# Altium integrated library Altera FPGA.IntLib: 467 symbols (part 2 of 3)
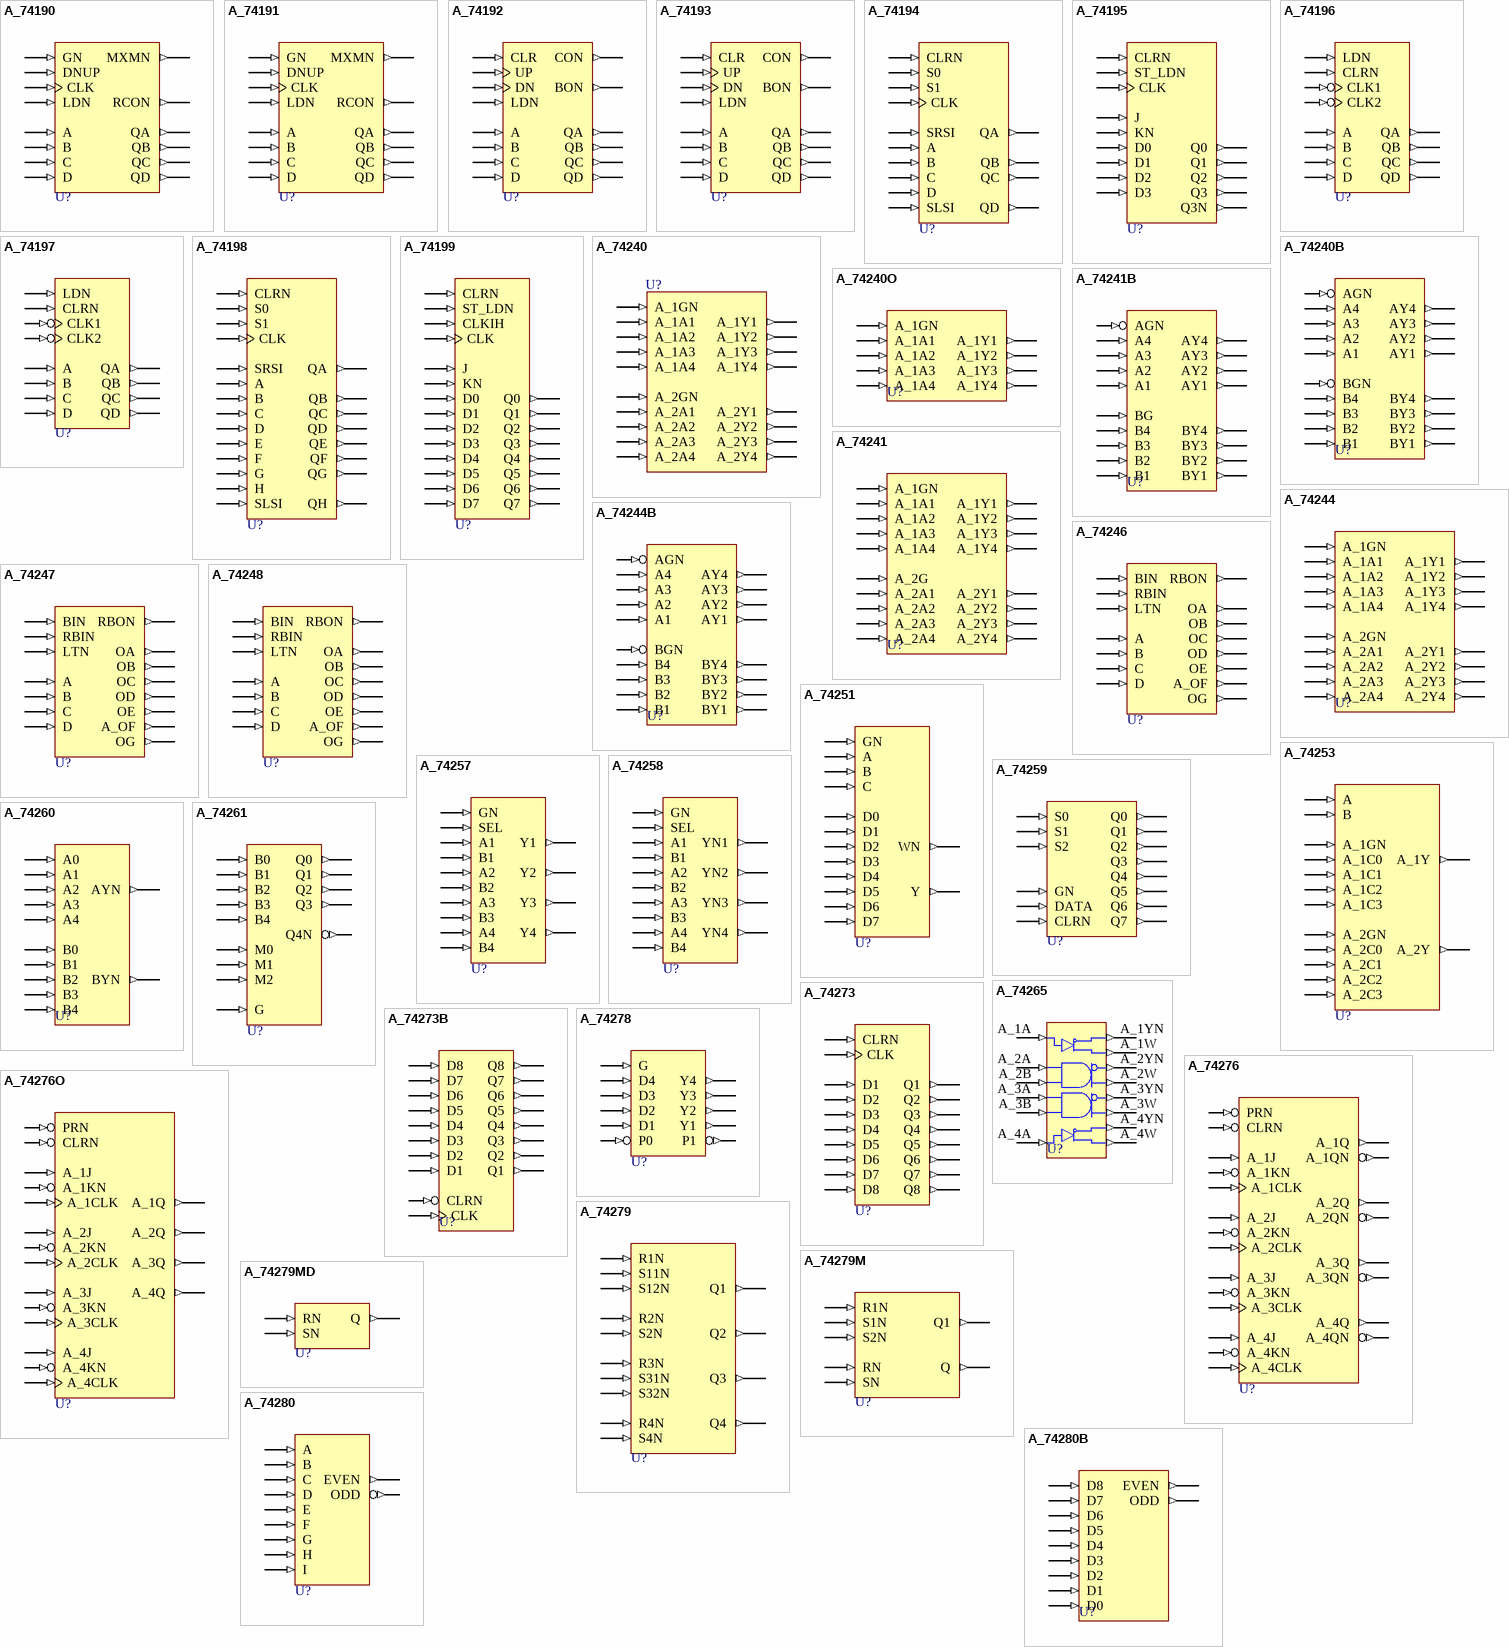
[diagram p13: symbols A_74190 to A_74280B]

## A_74273
designator U?
Octal D-Type Flip-Flop with Asynchronous Clear; FPGAVendor: Altera; Published: 17-Apr-2002; Publisher: Altium Limited
pins: CLK (in), CLRN (in), D1 (in), D2 (in), D3 (in), D4 (in), D5 (in), D6 (in), D7 (in), D8 (in), Q1 (out), Q2 (out), Q3 (out), Q4 (out), Q5 (out), Q6 (out), Q7 (out), Q8 (out)

## A_74273B
designator U?
Octal D-Type Flipflop with Asynchronous Clear; FPGAVendor: Altera; Published: 17-Apr-2002; Publisher: Altium Limited
pins: CLK (in), CLRN (in), D1 (in), D2 (in), D3 (in), D4 (in), D5 (in), D6 (in), D7 (in), D8 (in), Q1 (out), Q2 (out), Q3 (out), Q4 (out), Q5 (out), Q6 (out), Q7 (out), Q8 (out)

## A_74276
designator U?
Quad J-K-Type Flip-Flop Register with Common Preset and Clear; FPGAVendor: Altera; Published: 17-Apr-2002; Publisher: Altium Limited
pins: A_1CLK (in), A_1J (in), A_1KN (in), A_1Q (out), A_1QN (out), A_2CLK (in), A_2J (in), A_2KN (in), A_2Q (out), A_2QN (out), A_3CLK (in), A_3J (in), A_3KN (in), A_3Q (out), A_3QN (out), A_4CLK (in), A_4J (in), A_4KN (in), A_4Q (out), A_4QN (out), CLRN (in), PRN (in)

## A_74276O
designator U?
Quad J-K-Type Flip-Flop Register with Common Preset and Clear; FPGAVendor: Altera; Published: 17-Apr-2002; Publisher: Altium Limited
pins: A_1CLK (in), A_1J (in), A_1KN (in), A_1Q (out), A_2CLK (in), A_2J (in), A_2KN (in), A_2Q (out), A_3CLK (in), A_3J (in), A_3KN (in), A_3Q (out), A_4CLK (in), A_4J (in), A_4KN (in), A_4Q (out), CLRN (in), PRN (in)

## A_74278
designator U?
4-Bit Cascadable Priority Register; FPGAVendor: Altera; Published: 17-Apr-2002; Publisher: Altium Limited
pins: D1 (in), D2 (in), D3 (in), D4 (in), G (in), P0 (in), P1 (out), Y1 (out), Y2 (out), Y3 (out), Y4 (out)

## A_74279
designator U?
Quad S-R Latch (Set-Reset); FPGAVendor: Altera; Published: 17-Apr-2002; Publisher: Altium Limited
pins: Q1 (out), Q2 (out), Q3 (out), Q4 (out), R1N (in), R2N (in), R3N (in), R4N (in), S2N (in), S4N (in), S11N (in), S12N (in), S31N (in), S32N (in)

## A_74279M
designator U?
Dual S-R Latch (Set-Reset); FPGAVendor: Altera; Published: 17-Apr-2002; Publisher: Altium Limited
pins: Q (out), Q1 (out), R1N (in), RN (in), S1N (in), S2N (in), SN (in)

## A_74279MD
designator U?
S-R Latch (Set-Reset); FPGAVendor: Altera; Published: 17-Apr-2002; Publisher: Altium Limited
pins: Q (out), RN (in), SN (in)

## A_74280
designator U?
9-Bit Odd/Even Parity Generator/Checker; FPGAVendor: Altera; Published: 17-Apr-2002; Publisher: Altium Limited
pins: A (in), B (in), C (in), D (in), E (in), EVEN (out), F (in), G (in), H (in), I (in), ODD (out)

## A_74280B
designator U?
9-Bit Odd/Even Parity Generator/Checker; FPGAVendor: Altera; Published: 17-Apr-2002; Publisher: Altium Limited
pins: D0 (in), D1 (in), D2 (in), D3 (in), D4 (in), D5 (in), D6 (in), D7 (in), D8 (in), EVEN (out), ODD (out)

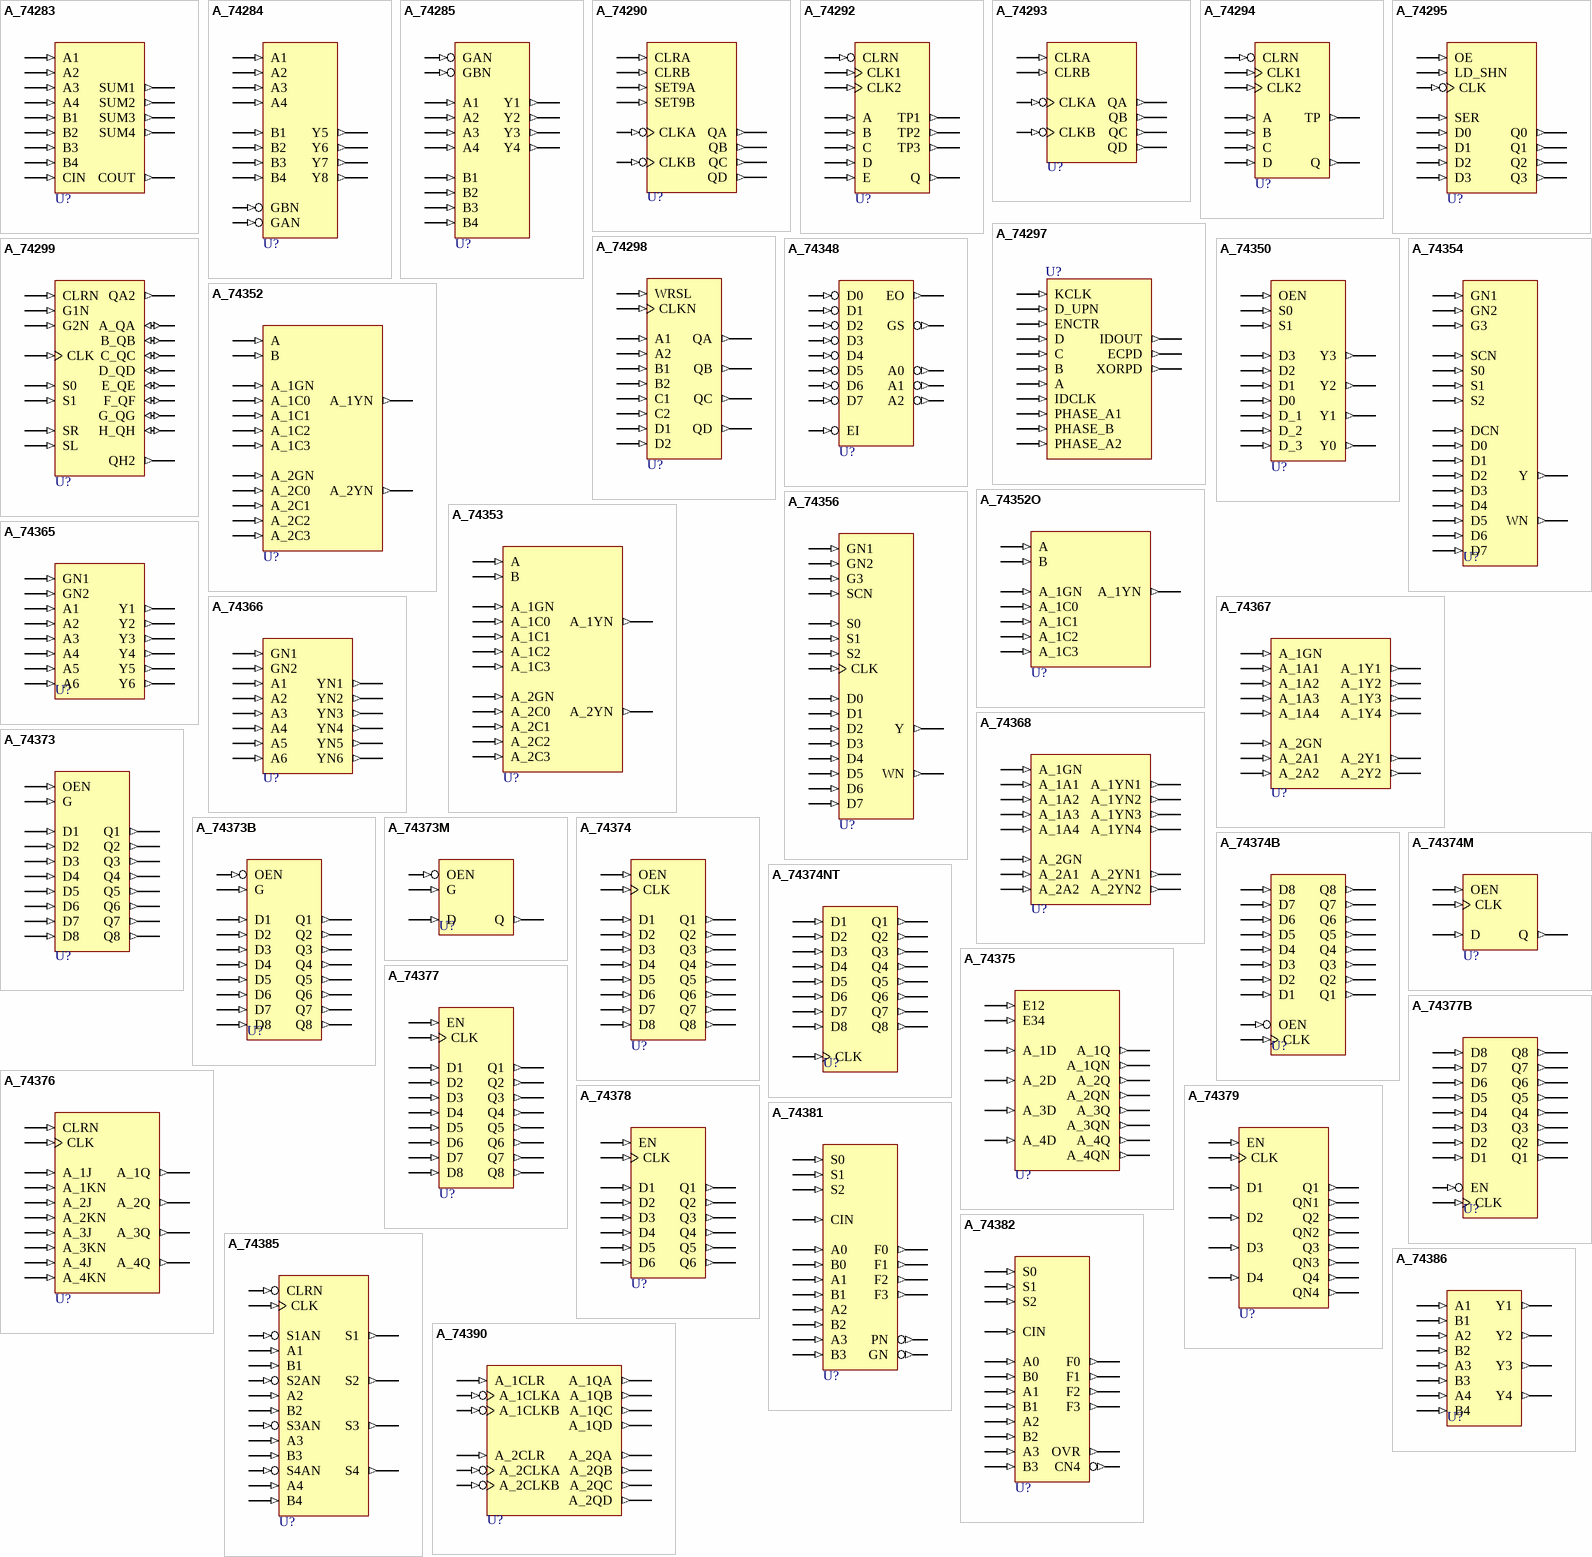
[diagram p5: symbols A_74283 to A_74390]

## A_74283
designator U?
4-Bit Full Adder with Fast Carry; FPGAVendor: Altera; Published: 17-Apr-2002; Publisher: Altium Limited
pins: A1 (in), A2 (in), A3 (in), A4 (in), B1 (in), B2 (in), B3 (in), B4 (in), CIN (in), COUT (out), SUM1 (out), SUM2 (out), SUM3 (out), SUM4 (out)

## A_74284
designator U?
4-Bit-by-4-Bit Parallel Binary Multiplier (Upper 4 Bits of Result); FPGAVendor: Altera; Published: 17-Apr-2002; Publisher: Altium Limited
pins: A1 (in), A2 (in), A3 (in), A4 (in), B1 (in), B2 (in), B3 (in), B4 (in), GAN (in), GBN (in), Y5 (out), Y6 (out), Y7 (out), Y8 (out)

## A_74285
designator U?
4-Bit-by-4-Bit Parallel Binary Multiplier (Lower 4 Bits of Result); FPGAVendor: Altera; Published: 17-Apr-2002; Publisher: Altium Limited
pins: A1 (in), A2 (in), A3 (in), A4 (in), B1 (in), B2 (in), B3 (in), B4 (in), GAN (in), GBN (in), Y1 (out), Y2 (out), Y3 (out), Y4 (out)

## A_74290
designator U?
Decade Counter with Clear; FPGAVendor: Altera; Published: 17-Apr-2002; Publisher: Altium Limited
pins: CLKA (in), CLKB (in), CLRA (in), CLRB (in), QA (out), QB (out), QC (out), QD (out), SET9A (in), SET9B (in)

## A_74292
designator U?
Programmable Frequency Divider/Digital Timer; FPGAVendor: Altera; Published: 17-Apr-2002; Publisher: Altium Limited
pins: A (in), B (in), C (in), CLK1 (in), CLK2 (in), CLRN (in), D (in), E (in), Q (out), TP1 (out), TP2 (out), TP3 (out)

## A_74293
designator U?
Binary Counter with Clear; FPGAVendor: Altera; Published: 17-Apr-2002; Publisher: Altium Limited
pins: CLKA (in), CLKB (in), CLRA (in), CLRB (in), QA (out), QB (out), QC (out), QD (out)

## A_74294
designator U?
Programmable Frequency Divider/Digital Timer; FPGAVendor: Altera; Published: 17-Apr-2002; Publisher: Altium Limited
pins: A (in), B (in), C (in), CLK1 (in), CLK2 (in), CLRN (in), D (in), Q (out), TP (out)

## A_74295
designator U?
4-Bit Right-Shift Left-Shift Register with Tri-State Outputs; FPGAVendor: Altera; Published: 17-Apr-2002; Publisher: Altium Limited
pins: CLK (in), D0 (in), D1 (in), D2 (in), D3 (in), LD_SHN (in), OE (in), Q0 (out), Q1 (out), Q2 (out), Q3 (out), SER (in)

## A_74297
designator U?
Digital Phase-Locked Loop Filter; FPGAVendor: Altera; Published: 17-Apr-2002; Publisher: Altium Limited
pins: A (in), B (in), C (in), D (in), D_UPN (in), ECPD (out), ENCTR (in), IDCLK (in), IDOUT (out), KCLK (in), PHASE_A1 (in), PHASE_A2 (in), PHASE_B (in), XORPD (out)

## A_74298
designator U?
Quad 2-Input Multiplexer with Storage; FPGAVendor: Altera; Published: 17-Apr-2002; Publisher: Altium Limited
pins: A1 (in), A2 (in), B1 (in), B2 (in), C1 (in), C2 (in), CLKN (in), D1 (in), D2 (in), QA (out), QB (out), QC (out), QD (out), WRSL (in)

## A_74299
designator U?
8-Bit Universal Shift/Storage Register; FPGAVendor: Altera; Published: 17-Apr-2002; Publisher: Altium Limited
pins: A_QA (io), B_QB (io), C_QC (io), CLK (in), CLRN (in), D_QD (io), E_QE (io), F_QF (io), G1N (in), G2N (in), G_QG (io), H_QH (io), QA2 (out), QH2 (out), S0 (in), S1 (in), SL (in), SR (in)

## A_74348
designator U?
8-Line to 3-Line Priority Encoder with Tri-State Outputs; FPGAVendor: Altera; Published: 17-Apr-2002; Publisher: Altium Limited
pins: A0 (out), A1 (out), A2 (out), D0 (in), D1 (in), D2 (in), D3 (in), D4 (in), D5 (in), D6 (in), D7 (in), EI (in), EO (out), GS (out)

## A_74350
designator U?
4-Bit Shift Register with Tri-State Outputs; FPGAVendor: Altera; Published: 17-Apr-2002; Publisher: Altium Limited
pins: D0 (in), D1 (in), D2 (in), D3 (in), D_1 (in), D_2 (in), D_3 (in), OEN (in), S0 (in), S1 (in), Y0 (out), Y1 (out), Y2 (out), Y3 (out)

## A_74352
designator U?
Dual 4-Line-to-1-Line Data Selector/Multiplexer with Inverting Outputs; FPGAVendor: Altera; Published: 17-Apr-2002; Publisher: Altium Limited
pins: A (in), A_1C0 (in), A_1C1 (in), A_1C2 (in), A_1C3 (in), A_1GN (in), A_1YN (out), A_2C0 (in), A_2C1 (in), A_2C2 (in), A_2C3 (in), A_2GN (in), A_2YN (out), B (in)

## A_74352O
designator U?
4-Line-to-1-Line Data Selector/Multiplexer with Inverting Outputs; FPGAVendor: Altera; Published: 17-Apr-2002; Publisher: Altium Limited
pins: A (in), A_1C0 (in), A_1C1 (in), A_1C2 (in), A_1C3 (in), A_1GN (in), A_1YN (out), B (in)

## A_74353
designator U?
Dual 4-Line-to-1-Line Data Selector/Multiplexer with Tri-State Inverting Outputs; FPGAVendor: Altera; Published: 17-Apr-2002; Publisher: Altium Limited
pins: A (in), A_1C0 (in), A_1C1 (in), A_1C2 (in), A_1C3 (in), A_1GN (in), A_1YN (out), A_2C0 (in), A_2C1 (in), A_2C2 (in), A_2C3 (in), A_2GN (in), A_2YN (out), B (in)

## A_74354
designator U?
8-Line-to-1-Line Data Selector/Multiplexer/Register with Tri-State Outputs; FPGAVendor: Altera; Published: 17-Apr-2002; Publisher: Altium Limited
pins: D0 (in), D1 (in), D2 (in), D3 (in), D4 (in), D5 (in), D6 (in), D7 (in), DCN (in), G3 (in), GN1 (in), GN2 (in), S0 (in), S1 (in), S2 (in), SCN (in), WN (out), Y (out)

## A_74356
designator U?
8-Line-to-1-Line Data Selector/Multiplexer/Register with Tri-State Outputs; FPGAVendor: Altera; Published: 17-Apr-2002; Publisher: Altium Limited
pins: CLK (in), D0 (in), D1 (in), D2 (in), D3 (in), D4 (in), D5 (in), D6 (in), D7 (in), G3 (in), GN1 (in), GN2 (in), S0 (in), S1 (in), S2 (in), SCN (in), WN (out), Y (out)

## A_74365
designator U?
Hex Tri-State Buffer; FPGAVendor: Altera; Published: 17-Apr-2002; Publisher: Altium Limited
pins: A1 (in), A2 (in), A3 (in), A4 (in), A5 (in), A6 (in), GN1 (in), GN2 (in), Y1 (out), Y2 (out), Y3 (out), Y4 (out), Y5 (out), Y6 (out)

## A_74366
designator U?
Hex Inverting Tri-State Buffer; FPGAVendor: Altera; Published: 17-Apr-2002; Publisher: Altium Limited
pins: A1 (in), A2 (in), A3 (in), A4 (in), A5 (in), A6 (in), GN1 (in), GN2 (in), YN1 (out), YN2 (out), YN3 (out), YN4 (out), YN5 (out), YN6 (out)

## A_74367
designator U?
Hex Tri-State Buffer; FPGAVendor: Altera; Published: 17-Apr-2002; Publisher: Altium Limited
pins: A_1A1 (in), A_1A2 (in), A_1A3 (in), A_1A4 (in), A_1GN (in), A_1Y1 (out), A_1Y2 (out), A_1Y3 (out), A_1Y4 (out), A_2A1 (in), A_2A2 (in), A_2GN (in), A_2Y1 (out), A_2Y2 (out)

## A_74368
designator U?
Hex Inverting Tri-State Buffer; FPGAVendor: Altera; Published: 17-Apr-2002; Publisher: Altium Limited
pins: A_1A1 (in), A_1A2 (in), A_1A3 (in), A_1A4 (in), A_1GN (in), A_1YN1 (out), A_1YN2 (out), A_1YN3 (out), A_1YN4 (out), A_2A1 (in), A_2A2 (in), A_2GN (in), A_2YN1 (out), A_2YN2 (out)

## A_74373
designator U?
Octal Transparent D-Type Latch with Tri-State Outputs; FPGAVendor: Altera; Published: 17-Apr-2002; Publisher: Altium Limited
pins: D1 (in), D2 (in), D3 (in), D4 (in), D5 (in), D6 (in), D7 (in), D8 (in), G (in), OEN (in), Q1 (out), Q2 (out), Q3 (out), Q4 (out), Q5 (out), Q6 (out), Q7 (out), Q8 (out)

## A_74373B
designator U?
Octal Transparent D-Type Latch with Tri-State Outputs; FPGAVendor: Altera; Published: 17-Apr-2002; Publisher: Altium Limited
pins: D1 (in), D2 (in), D3 (in), D4 (in), D5 (in), D6 (in), D7 (in), D8 (in), G (in), OEN (in), Q1 (out), Q2 (out), Q3 (out), Q4 (out), Q5 (out), Q6 (out), Q7 (out), Q8 (out)

## A_74373M
designator U?
Transparent D-Type Latch with Tri-State Outputs; FPGAVendor: Altera; Published: 17-Apr-2002; Publisher: Altium Limited
pins: D (in), G (in), OEN (in), Q (out)

## A_74374
designator U?
Octal D-Type Flip-Flop with Output Enable and Tri-State Outputs; FPGAVendor: Altera; Published: 17-Apr-2002; Publisher: Altium Limited
pins: CLK (in), D1 (in), D2 (in), D3 (in), D4 (in), D5 (in), D6 (in), D7 (in), D8 (in), OEN (in), Q1 (out), Q2 (out), Q3 (out), Q4 (out), Q5 (out), Q6 (out), Q7 (out), Q8 (out)

## A_74374B
designator U?
Octal D-Type Flipflop with Tri-State Outputs and Output Enable; FPGAVendor: Altera; Published: 17-Apr-2002; Publisher: Altium Limited
pins: CLK (in), D1 (in), D2 (in), D3 (in), D4 (in), D5 (in), D6 (in), D7 (in), D8 (in), OEN (in), Q1 (out), Q2 (out), Q3 (out), Q4 (out), Q5 (out), Q6 (out), Q7 (out), Q8 (out)

## A_74374M
designator U?
D-Type Flipflop with Tri-State Outputs and Output Enable; FPGAVendor: Altera; Published: 17-Apr-2002; Publisher: Altium Limited
pins: CLK (in), D (in), OEN (in), Q (out)

## A_74374NT
designator U?
Octal D-Type Flipflop; FPGAVendor: Altera; Published: 17-Apr-2002; Publisher: Altium Limited
pins: CLK (in), D1 (in), D2 (in), D3 (in), D4 (in), D5 (in), D6 (in), D7 (in), D8 (in), Q1 (out), Q2 (out), Q3 (out), Q4 (out), Q5 (out), Q6 (out), Q7 (out), Q8 (out)

## A_74375
designator U?
4-Bit Bistable Latch; FPGAVendor: Altera; Published: 17-Apr-2002; Publisher: Altium Limited
pins: A_1D (in), A_1Q (out), A_1QN (out), A_2D (in), A_2Q (out), A_2QN (out), A_3D (in), A_3Q (out), A_3QN (out), A_4D (in), A_4Q (out), A_4QN (out), E12 (in), E34 (in)

## A_74376
designator U?
Quad J-K-Type Flip-Flop with Common Clock and Common Clear; FPGAVendor: Altera; Published: 17-Apr-2002; Publisher: Altium Limited
pins: A_1J (in), A_1KN (in), A_1Q (out), A_2J (in), A_2KN (in), A_2Q (out), A_3J (in), A_3KN (in), A_3Q (out), A_4J (in), A_4KN (in), A_4Q (out), CLK (in), CLRN (in)

## A_74377
designator U?
Octal D-Type Flip-Flop with Enable; FPGAVendor: Altera; Published: 17-Apr-2002; Publisher: Altium Limited
pins: CLK (in), D1 (in), D2 (in), D3 (in), D4 (in), D5 (in), D6 (in), D7 (in), D8 (in), EN (in), Q1 (out), Q2 (out), Q3 (out), Q4 (out), Q5 (out), Q6 (out), Q7 (out), Q8 (out)

## A_74377B
designator U?
Octal D-Type Flipflop with Enable; FPGAVendor: Altera; Published: 17-Apr-2002; Publisher: Altium Limited
pins: CLK (in), D1 (in), D2 (in), D3 (in), D4 (in), D5 (in), D6 (in), D7 (in), D8 (in), EN (in), Q1 (out), Q2 (out), Q3 (out), Q4 (out), Q5 (out), Q6 (out), Q7 (out), Q8 (out)

## A_74378
designator U?
Hex D-Type Flip-Flop with Enable; FPGAVendor: Altera; Published: 17-Apr-2002; Publisher: Altium Limited
pins: CLK (in), D1 (in), D2 (in), D3 (in), D4 (in), D5 (in), D6 (in), EN (in), Q1 (out), Q2 (out), Q3 (out), Q4 (out), Q5 (out), Q6 (out)

## A_74379
designator U?
Quad D-Type Flip-Flop with Enable; FPGAVendor: Altera; Published: 17-Apr-2002; Publisher: Altium Limited
pins: CLK (in), D1 (in), D2 (in), D3 (in), D4 (in), EN (in), Q1 (out), Q2 (out), Q3 (out), Q4 (out), QN1 (out), QN2 (out), QN3 (out), QN4 (out)

## A_74381
designator U?
Arithmetic Logic Unit/Function Generator; FPGAVendor: Altera; Published: 17-Apr-2002; Publisher: Altium Limited
pins: A0 (in), A1 (in), A2 (in), A3 (in), B0 (in), B1 (in), B2 (in), B3 (in), CIN (in), F0 (out), F1 (out), F2 (out), F3 (out), GN (out), PN (out), S0 (in), S1 (in), S2 (in)

## A_74382
designator U?
Arithmetic Logic Unit/Function Generator; FPGAVendor: Altera; Published: 17-Apr-2002; Publisher: Altium Limited
pins: A0 (in), A1 (in), A2 (in), A3 (in), B0 (in), B1 (in), B2 (in), B3 (in), CIN (in), CN4 (out), F0 (out), F1 (out), F2 (out), F3 (out), OVR (out), S0 (in), S1 (in), S2 (in)

## A_74385
designator U?
4-Bit Adder/Subtractor with Clear; FPGAVendor: Altera; Published: 17-Apr-2002; Publisher: Altium Limited
pins: A1 (in), A2 (in), A3 (in), A4 (in), B1 (in), B2 (in), B3 (in), B4 (in), CLK (in), CLRN (in), S1 (out), S1AN (in), S2 (out), S2AN (in), S3 (out), S3AN (in), S4 (out), S4AN (in)

## A_74386
designator U?
Quad XOR Gate; FPGAVendor: Altera; Published: 17-Apr-2002; Publisher: Altium Limited
pins: A1 (in), A2 (in), A3 (in), A4 (in), B1 (in), B2 (in), B3 (in), B4 (in), Y1 (out), Y2 (out), Y3 (out), Y4 (out)

## A_74390
designator U?
Dual Decade Counter; FPGAVendor: Altera; Published: 17-Apr-2002; Publisher: Altium Limited
pins: A_1CLKA (in), A_1CLKB (in), A_1CLR (in), A_1QA (out), A_1QB (out), A_1QC (out), A_1QD (out), A_2CLKA (in), A_2CLKB (in), A_2CLR (in), A_2QA (out), A_2QB (out), A_2QC (out), A_2QD (out)

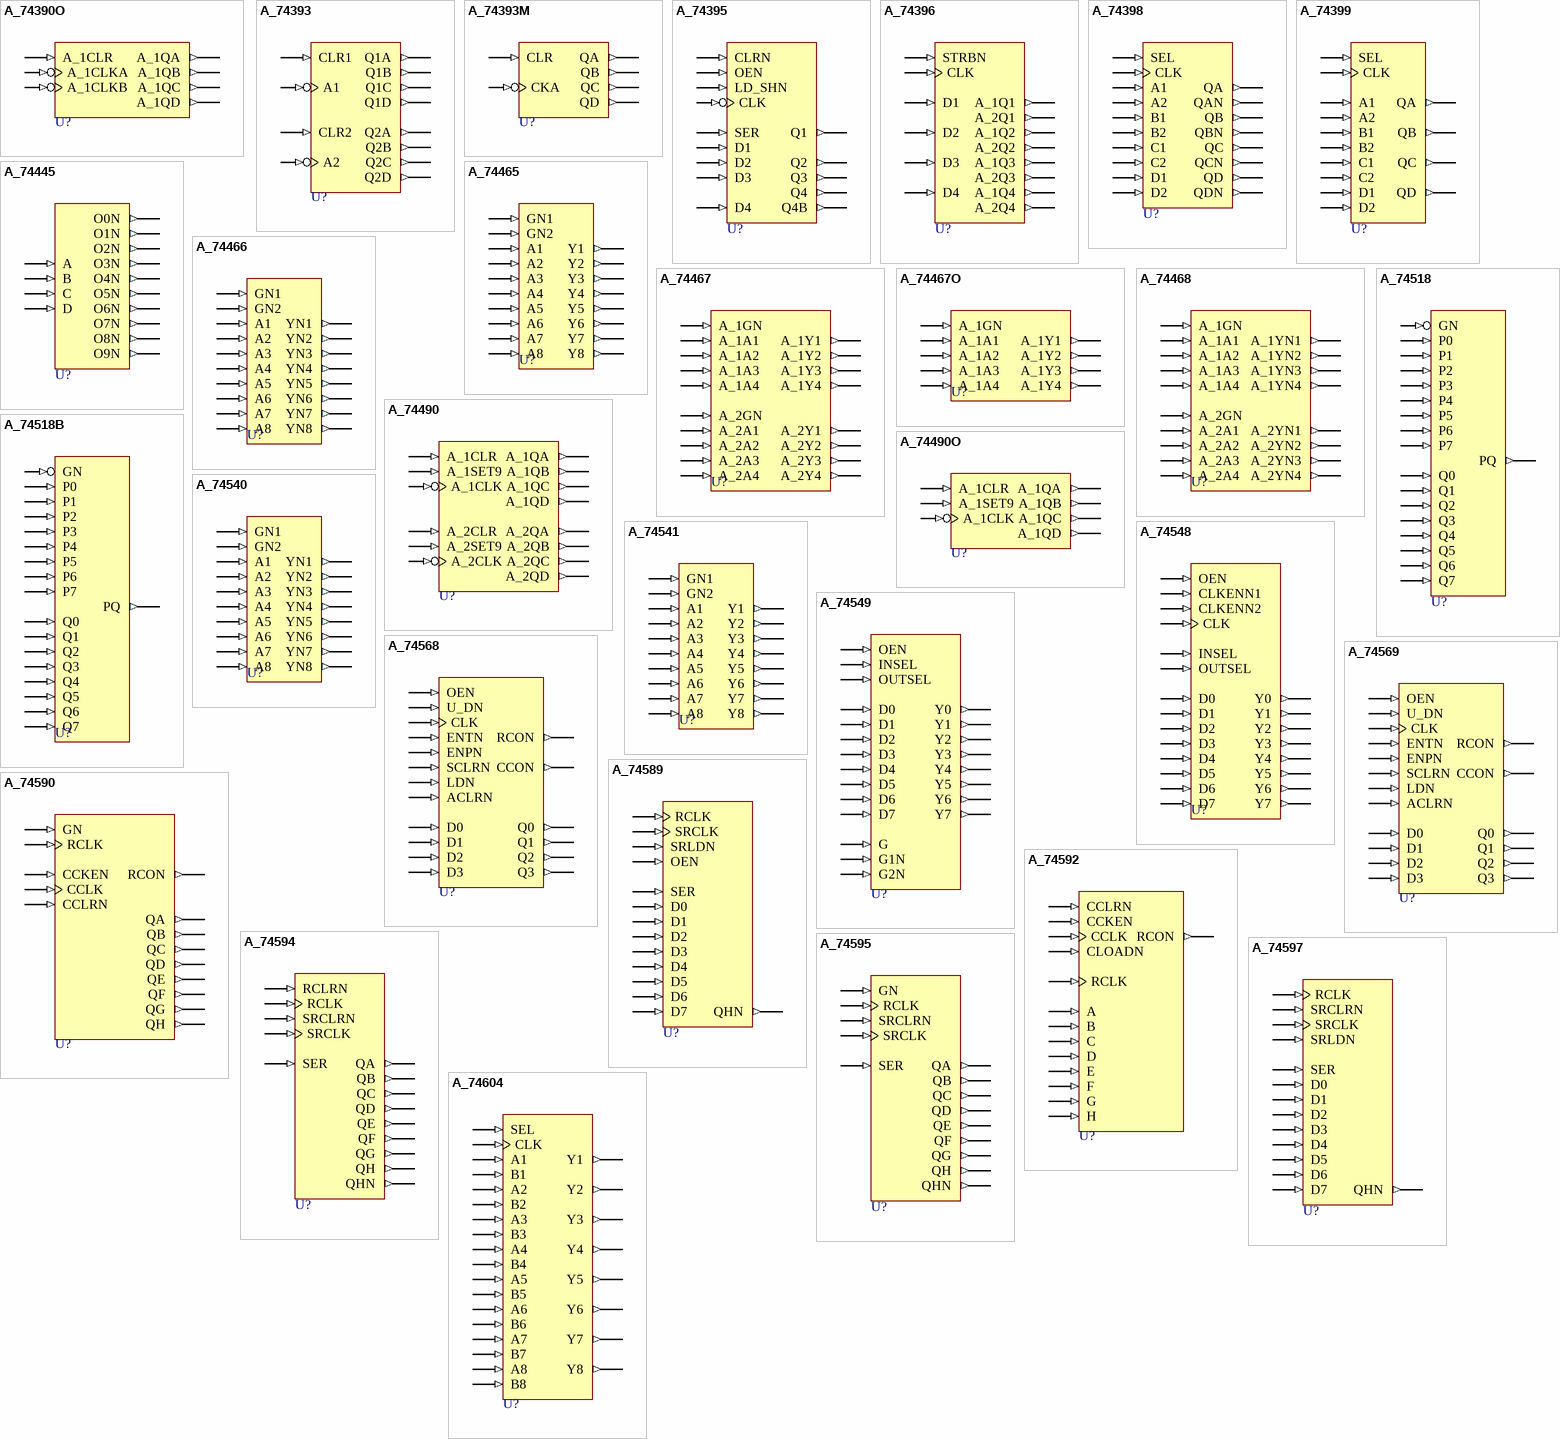
[diagram p6: symbols A_74390O to A_74604]

## A_74390O
designator U?
Decade Counter; FPGAVendor: Altera; Published: 17-Apr-2002; Publisher: Altium Limited
pins: A_1CLKA (in), A_1CLKB (in), A_1CLR (in), A_1QA (out), A_1QB (out), A_1QC (out), A_1QD (out)

## A_74393
designator U?
Dual 4-Bit Up Counter with Asynchronous Clear; FPGAVendor: Altera; Published: 17-Apr-2002; Publisher: Altium Limited
pins: A1 (in), A2 (in), CLR1 (in), CLR2 (in), Q1A (out), Q1B (out), Q1C (out), Q1D (out), Q2A (out), Q2B (out), Q2C (out), Q2D (out)

## A_74393M
designator U?
4-Bit Up Counter with Asynchronous Clear; FPGAVendor: Altera; Published: 17-Apr-2002; Publisher: Altium Limited
pins: CKA (in), CLR (in), QA (out), QB (out), QC (out), QD (out)

## A_74395
designator U?
4-Bit Cascadable Shift Register with Tri-State Outputs; FPGAVendor: Altera; Published: 17-Apr-2002; Publisher: Altium Limited
pins: CLK (in), CLRN (in), D1 (in), D2 (in), D3 (in), D4 (in), LD_SHN (in), OEN (in), Q1 (out), Q2 (out), Q3 (out), Q4 (out), Q4B (out), SER (in)

## A_74396
designator U?
Octal Storage Register; FPGAVendor: Altera; Published: 17-Apr-2002; Publisher: Altium Limited
pins: A_1Q1 (out), A_1Q2 (out), A_1Q3 (out), A_1Q4 (out), A_2Q1 (out), A_2Q2 (out), A_2Q3 (out), A_2Q4 (out), CLK (in), D1 (in), D2 (in), D3 (in), D4 (in), STRBN (in)

## A_74398
designator U?
Quad 2-Input Multiplexer with Storage; FPGAVendor: Altera; Published: 17-Apr-2002; Publisher: Altium Limited
pins: A1 (in), A2 (in), B1 (in), B2 (in), C1 (in), C2 (in), CLK (in), D1 (in), D2 (in), QA (out), QAN (out), QB (out), QBN (out), QC (out), QCN (out), QD (out), QDN (out), SEL (in)

## A_74399
designator U?
Quad 2-Input Multiplexer with Storage; FPGAVendor: Altera; Published: 17-Apr-2002; Publisher: Altium Limited
pins: A1 (in), A2 (in), B1 (in), B2 (in), C1 (in), C2 (in), CLK (in), D1 (in), D2 (in), QA (out), QB (out), QC (out), QD (out), SEL (in)

## A_74445
designator U?
BCD-to-Decimal Decoder; FPGAVendor: Altera; Published: 17-Apr-2002; Publisher: Altium Limited
pins: A (in), B (in), C (in), D (in), O0N (out), O1N (out), O2N (out), O3N (out), O4N (out), O5N (out), O6N (out), O7N (out), O8N (out), O9N (out)

## A_74465
designator U?
Octal Tri-State Buffer; FPGAVendor: Altera; Published: 17-Apr-2002; Publisher: Altium Limited
pins: A1 (in), A2 (in), A3 (in), A4 (in), A5 (in), A6 (in), A7 (in), A8 (in), GN1 (in), GN2 (in), Y1 (out), Y2 (out), Y3 (out), Y4 (out), Y5 (out), Y6 (out), Y7 (out), Y8 (out)

## A_74466
designator U?
Octal Inverting Tri-State Buffer; FPGAVendor: Altera; Published: 17-Apr-2002; Publisher: Altium Limited
pins: A1 (in), A2 (in), A3 (in), A4 (in), A5 (in), A6 (in), A7 (in), A8 (in), GN1 (in), GN2 (in), YN1 (out), YN2 (out), YN3 (out), YN4 (out), YN5 (out), YN6 (out), YN7 (out), YN8 (out)

## A_74467
designator U?
Octal Tri-State Buffer; FPGAVendor: Altera; Published: 17-Apr-2002; Publisher: Altium Limited
pins: A_1A1 (in), A_1A2 (in), A_1A3 (in), A_1A4 (in), A_1GN (in), A_1Y1 (out), A_1Y2 (out), A_1Y3 (out), A_1Y4 (out), A_2A1 (in), A_2A2 (in), A_2A3 (in), A_2A4 (in), A_2GN (in), A_2Y1 (out), A_2Y2 (out), A_2Y3 (out), A_2Y4 (out)

## A_74467O
designator U?
Quad Tri-State Buffer; FPGAVendor: Altera; Published: 17-Apr-2002; Publisher: Altium Limited
pins: A_1A1 (in), A_1A2 (in), A_1A3 (in), A_1A4 (in), A_1GN (in), A_1Y1 (out), A_1Y2 (out), A_1Y3 (out), A_1Y4 (out)

## A_74468
designator U?
Octal Inverting Tri-State Buffer; FPGAVendor: Altera; Published: 17-Apr-2002; Publisher: Altium Limited
pins: A_1A1 (in), A_1A2 (in), A_1A3 (in), A_1A4 (in), A_1GN (in), A_1YN1 (out), A_1YN2 (out), A_1YN3 (out), A_1YN4 (out), A_2A1 (in), A_2A2 (in), A_2A3 (in), A_2A4 (in), A_2GN (in), A_2YN1 (out), A_2YN2 (out), A_2YN3 (out), A_2YN4 (out)

## A_74490
designator U?
Dual 4-Bit Decade Counter; FPGAVendor: Altera; Published: 17-Apr-2002; Publisher: Altium Limited
pins: A_1CLK (in), A_1CLR (in), A_1QA (out), A_1QB (out), A_1QC (out), A_1QD (out), A_1SET9 (in), A_2CLK (in), A_2CLR (in), A_2QA (out), A_2QB (out), A_2QC (out), A_2QD (out), A_2SET9 (in)

## A_74490O
designator U?
4-Bit Decade Counter; FPGAVendor: Altera; Published: 17-Apr-2002; Publisher: Altium Limited
pins: A_1CLK (in), A_1CLR (in), A_1QA (out), A_1QB (out), A_1QC (out), A_1QD (out), A_1SET9 (in)

## A_74518
designator U?
8-Bit Identity Comparator; FPGAVendor: Altera; Published: 17-Apr-2002; Publisher: Altium Limited
pins: GN (in), P0 (in), P1 (in), P2 (in), P3 (in), P4 (in), P5 (in), P6 (in), P7 (in), PQ (out), Q0 (in), Q1 (in), Q2 (in), Q3 (in), Q4 (in), Q5 (in), Q6 (in), Q7 (in)

## A_74518B
designator U?
8-Bit Identity Comparator; FPGAVendor: Altera; Published: 17-Apr-2002; Publisher: Altium Limited
pins: GN (in), P0 (in), P1 (in), P2 (in), P3 (in), P4 (in), P5 (in), P6 (in), P7 (in), PQ (out), Q0 (in), Q1 (in), Q2 (in), Q3 (in), Q4 (in), Q5 (in), Q6 (in), Q7 (in)

## A_74540
designator U?
Octal Inverting Tri-State Buffer; FPGAVendor: Altera; Published: 17-Apr-2002; Publisher: Altium Limited
pins: A1 (in), A2 (in), A3 (in), A4 (in), A5 (in), A6 (in), A7 (in), A8 (in), GN1 (in), GN2 (in), YN1 (out), YN2 (out), YN3 (out), YN4 (out), YN5 (out), YN6 (out), YN7 (out), YN8 (out)

## A_74541
designator U?
Octal Tri-State Buffer; FPGAVendor: Altera; Published: 17-Apr-2002; Publisher: Altium Limited
pins: A1 (in), A2 (in), A3 (in), A4 (in), A5 (in), A6 (in), A7 (in), A8 (in), GN1 (in), GN2 (in), Y1 (out), Y2 (out), Y3 (out), Y4 (out), Y5 (out), Y6 (out), Y7 (out), Y8 (out)

## A_74548
designator U?
8-Bit 2-Stage Pipelined Register with Tri-State Outputs; FPGAVendor: Altera; Published: 17-Apr-2002; Publisher: Altium Limited
pins: CLK (in), CLKENN1 (in), CLKENN2 (in), D0 (in), D1 (in), D2 (in), D3 (in), D4 (in), D5 (in), D6 (in), D7 (in), INSEL (in), OEN (in), OUTSEL (in), Y0 (out), Y1 (out), Y2 (out), Y3 (out), Y4 (out), Y5 (out), Y6 (out), Y7 (out)

## A_74549
designator U?
8-Bit 2-Stage Pipelined Latch; FPGAVendor: Altera; Published: 17-Apr-2002; Publisher: Altium Limited
pins: D0 (in), D1 (in), D2 (in), D3 (in), D4 (in), D5 (in), D6 (in), D7 (in), G (in), G1N (in), G2N (in), INSEL (in), OEN (in), OUTSEL (in), Y0 (out), Y1 (out), Y2 (out), Y3 (out), Y4 (out), Y5 (out), Y6 (out), Y7 (out)

## A_74568
designator U?
Decade Up/Down Counter with Synchronous Load and Clear and Asynchronous Clear; FPGAVendor: Altera; Published: 17-Apr-2002; Publisher: Altium Limited
pins: ACLRN (in), CCON (out), CLK (in), D0 (in), D1 (in), D2 (in), D3 (in), ENPN (in), ENTN (in), LDN (in), OEN (in), Q0 (out), Q1 (out), Q2 (out), Q3 (out), RCON (out), SCLRN (in), U_DN (in)

## A_74569
designator U?
Binary Up/Down Counter with Synchronous Load and Clear and Asynchronous Clear; FPGAVendor: Altera; Published: 17-Apr-2002; Publisher: Altium Limited
pins: ACLRN (in), CCON (out), CLK (in), D0 (in), D1 (in), D2 (in), D3 (in), ENPN (in), ENTN (in), LDN (in), OEN (in), Q0 (out), Q1 (out), Q2 (out), Q3 (out), RCON (out), SCLRN (in), U_DN (in)

## A_74589
designator U?
8-Bit Shift Register with Input Latches and Tri-State Output; FPGAVendor: Altera; Published: 17-Apr-2002; Publisher: Altium Limited
pins: D0 (in), D1 (in), D2 (in), D3 (in), D4 (in), D5 (in), D6 (in), D7 (in), OEN (in), QHN (out), RCLK (in), SER (in), SRCLK (in), SRLDN (in)

## A_74590
designator U?
8-Bit Binary Counter with Tri-State Output Registers; FPGAVendor: Altera; Published: 17-Apr-2002; Publisher: Altium Limited
pins: CCKEN (in), CCLK (in), CCLRN (in), GN (in), QA (out), QB (out), QC (out), QD (out), QE (out), QF (out), QG (out), QH (out), RCLK (in), RCON (out)

## A_74592
designator U?
8-Bit Binary Counter with Input Registers; FPGAVendor: Altera; Published: 17-Apr-2002; Publisher: Altium Limited
pins: A (in), B (in), C (in), CCKEN (in), CCLK (in), CCLRN (in), CLOADN (in), D (in), E (in), F (in), G (in), H (in), RCLK (in), RCON (out)

## A_74594
designator U?
8-Bit Shift Register with Output Latches; FPGAVendor: Altera; Published: 17-Apr-2002; Publisher: Altium Limited
pins: QA (out), QB (out), QC (out), QD (out), QE (out), QF (out), QG (out), QH (out), QHN (out), RCLK (in), RCLRN (in), SER (in), SRCLK (in), SRCLRN (in)

## A_74595
designator U?
8-Bit Shift Register with Output Latches and Tri-State Outputs; FPGAVendor: Altera; Published: 17-Apr-2002; Publisher: Altium Limited
pins: GN (in), QA (out), QB (out), QC (out), QD (out), QE (out), QF (out), QG (out), QH (out), QHN (out), RCLK (in), SER (in), SRCLK (in), SRCLRN (in)

## A_74597
designator U?
8-Bit Shift Register with Input Register; FPGAVendor: Altera; Published: 17-Apr-2002; Publisher: Altium Limited
pins: D0 (in), D1 (in), D2 (in), D3 (in), D4 (in), D5 (in), D6 (in), D7 (in), QHN (out), RCLK (in), SER (in), SRCLK (in), SRCLRN (in), SRLDN (in)

## A_74604
designator U?
Octal 2-Input Multiplexed Latch with Tri-State Outputs; FPGAVendor: Altera; Published: 17-Apr-2002; Publisher: Altium Limited
pins: A1 (in), A2 (in), A3 (in), A4 (in), A5 (in), A6 (in), A7 (in), A8 (in), B1 (in), B2 (in), B3 (in), B4 (in), B5 (in), B6 (in), B7 (in), B8 (in), CLK (in), SEL (in), Y1 (out), Y2 (out), Y3 (out), Y4 (out), Y5 (out), Y6 (out), Y7 (out), Y8 (out)

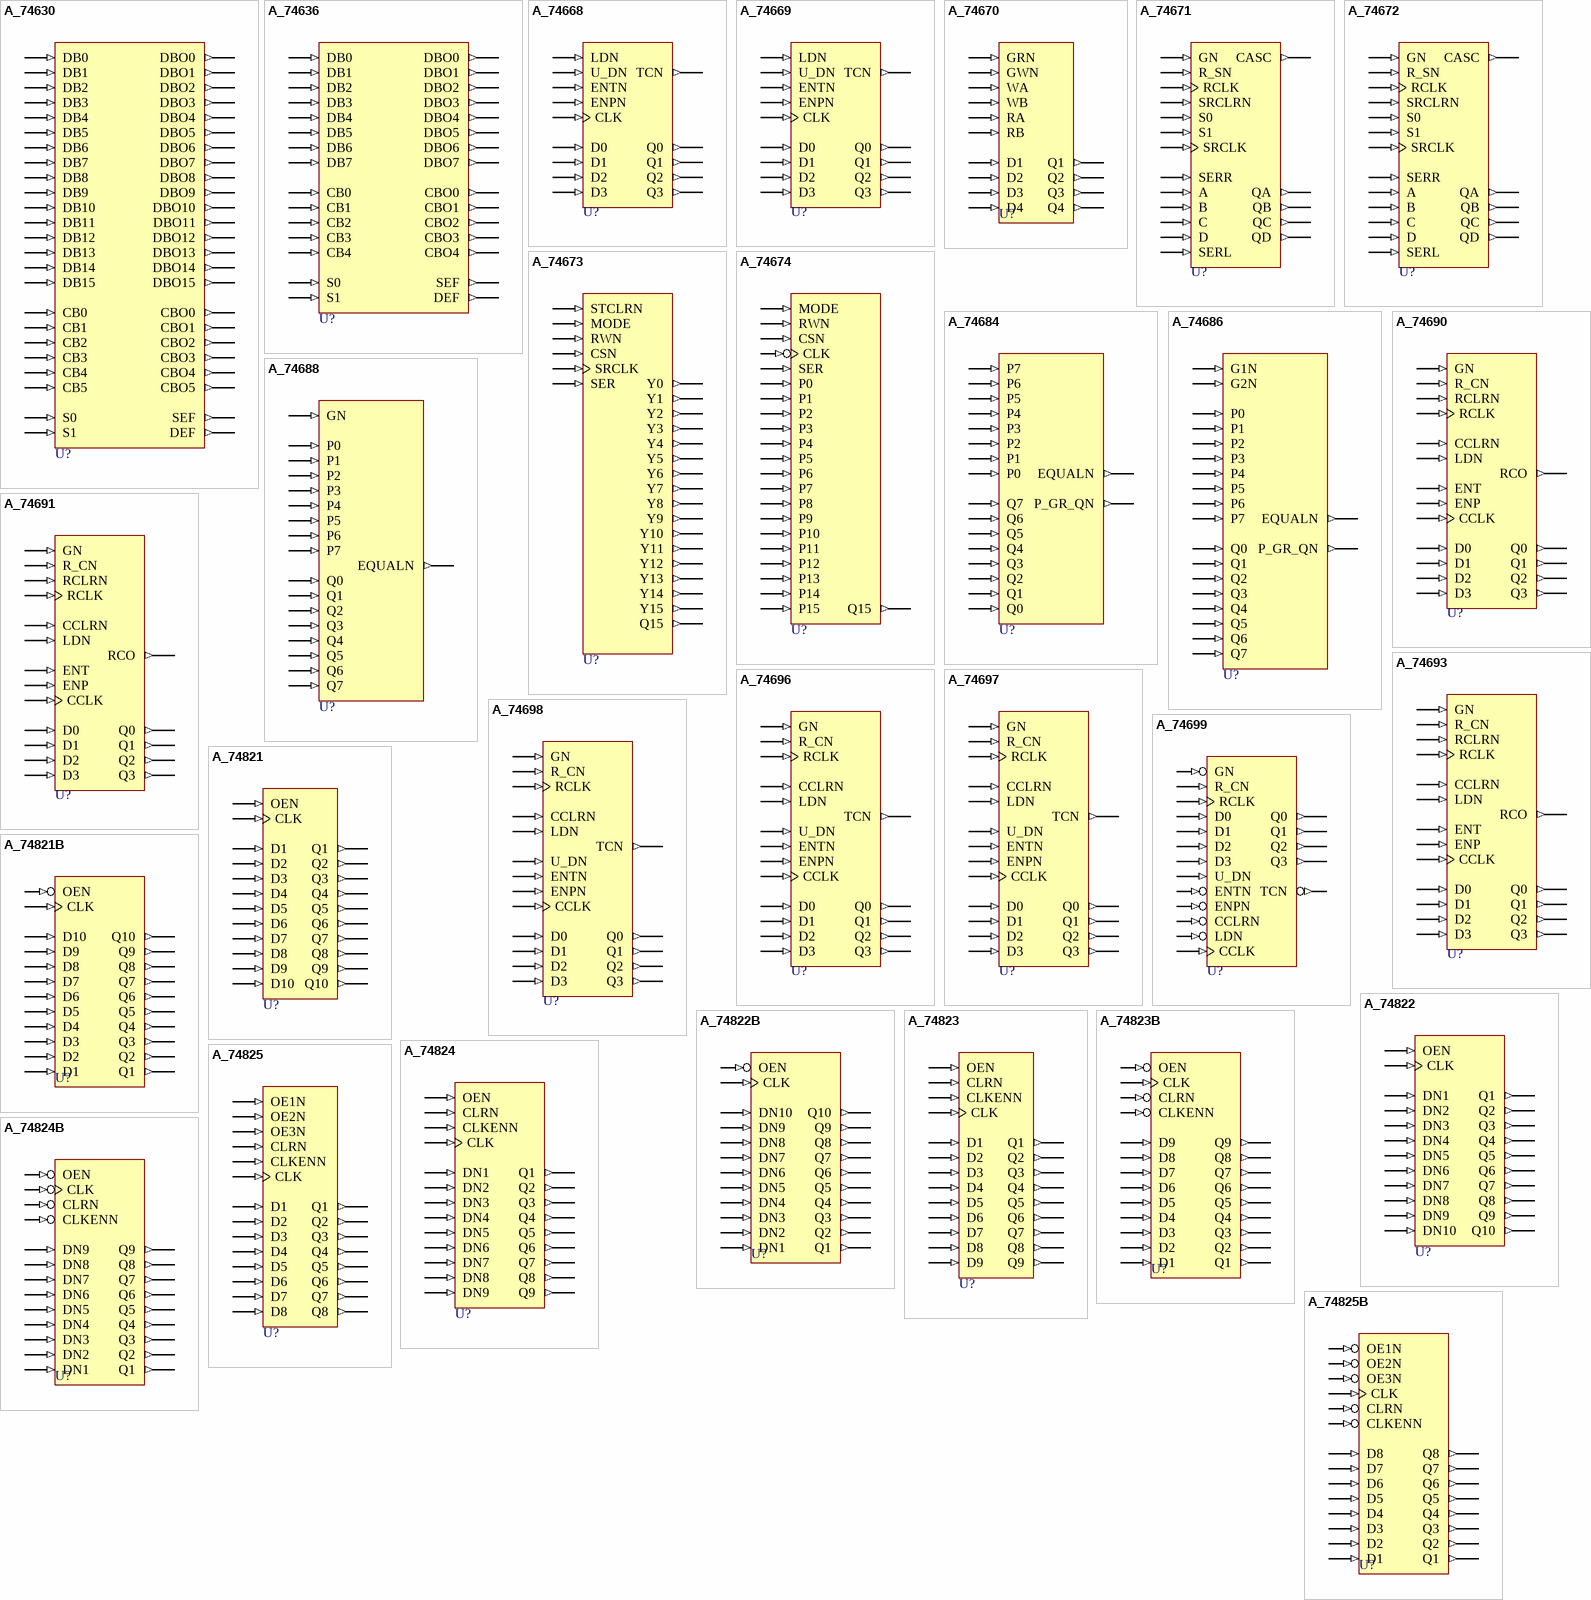
[diagram p7: symbols A_74630 to A_74825B]

## A_74630
designator U?
16-Bit Parallel Error Detection and Correction Circuit; FPGAVendor: Altera; Published: 17-Apr-2002; Publisher: Altium Limited
pins: CB0 (in), CB1 (in), CB2 (in), CB3 (in), CB4 (in), CB5 (in), CBO0 (out), CBO1 (out), CBO2 (out), CBO3 (out), CBO4 (out), CBO5 (out), DB0 (in), DB1 (in), DB2 (in), DB3 (in), DB4 (in), DB5 (in), DB6 (in), DB7 (in), DB8 (in), DB9 (in), DB10 (in), DB11 (in), DB12 (in), DB13 (in), DB14 (in), DB15 (in), DBO0 (out), DBO1 (out), DBO2 (out), DBO3 (out), DBO4 (out), DBO5 (out), DBO6 (out), DBO7 (out), DBO8 (out), DBO9 (out), DBO10 (out), DBO11 (out), DBO12 (out), DBO13 (out), DBO14 (out), DBO15 (out), DEF (out), S0 (in), S1 (in), SEF (out)

## A_74636
designator U?
8-Bit Parallel Error Detection and Correction Circuit; FPGAVendor: Altera; Published: 17-Apr-2002; Publisher: Altium Limited
pins: CB0 (in), CB1 (in), CB2 (in), CB3 (in), CB4 (in), CBO0 (out), CBO1 (out), CBO2 (out), CBO3 (out), CBO4 (out), DB0 (in), DB1 (in), DB2 (in), DB3 (in), DB4 (in), DB5 (in), DB6 (in), DB7 (in), DBO0 (out), DBO1 (out), DBO2 (out), DBO3 (out), DBO4 (out), DBO5 (out), DBO6 (out), DBO7 (out), DEF (out), S0 (in), S1 (in), SEF (out)

## A_74668
designator U?
Synchronous Decade Up/Down Counter; FPGAVendor: Altera; Published: 17-Apr-2002; Publisher: Altium Limited
pins: CLK (in), D0 (in), D1 (in), D2 (in), D3 (in), ENPN (in), ENTN (in), LDN (in), Q0 (out), Q1 (out), Q2 (out), Q3 (out), TCN (out), U_DN (in)

## A_74669
designator U?
Synchronous 4-Bit Binary Up/Down Counter; FPGAVendor: Altera; Published: 17-Apr-2002; Publisher: Altium Limited
pins: CLK (in), D0 (in), D1 (in), D2 (in), D3 (in), ENPN (in), ENTN (in), LDN (in), Q0 (out), Q1 (out), Q2 (out), Q3 (out), TCN (out), U_DN (in)

## A_74670
designator U?
4-Bit-by-4-Bit Register File with Tri-State Outputs; FPGAVendor: Altera; Published: 17-Apr-2002; Publisher: Altium Limited
pins: D1 (in), D2 (in), D3 (in), D4 (in), GRN (in), GWN (in), Q1 (out), Q2 (out), Q3 (out), Q4 (out), RA (in), RB (in), WA (in), WB (in)

## A_74671
designator U?
4-Bit Universal Shift Register/ Latch with Direct-Overriding Clear and Tri-State Outputs; FPGAVendor: Altera; Published: 17-Apr-2002; Publisher: Altium Limited
pins: A (in), B (in), C (in), CASC (out), D (in), GN (in), QA (out), QB (out), QC (out), QD (out), R_SN (in), RCLK (in), S0 (in), S1 (in), SERL (in), SERR (in), SRCLK (in), SRCLRN (in)

## A_74672
designator U?
4-Bit Universal Shift Register/Latch with Synchronous Clear and Tri-State Outputs; FPGAVendor: Altera; Published: 17-Apr-2002; Publisher: Altium Limited
pins: A (in), B (in), C (in), CASC (out), D (in), GN (in), QA (out), QB (out), QC (out), QD (out), R_SN (in), RCLK (in), S0 (in), S1 (in), SERL (in), SERR (in), SRCLK (in), SRCLRN (in)

## A_74673
designator U?
16-bit Serial-In Parallel-Out Shift Register with Output Storage Registers and Asynchronous Reset; FPGAVendor: Altera; Published: 17-Apr-2002; Publisher: Altium Limited
pins: CSN (in), MODE (in), Q15 (out), RWN (in), SER (in), SRCLK (in), STCLRN (in), Y0 (out), Y1 (out), Y2 (out), Y3 (out), Y4 (out), Y5 (out), Y6 (out), Y7 (out), Y8 (out), Y9 (out), Y10 (out), Y11 (out), Y12 (out), Y13 (out), Y14 (out), Y15 (out)

## A_74674
designator U?
16-bit Parallel-In Serial-Out Shift Register; FPGAVendor: Altera; Published: 17-Apr-2002; Publisher: Altium Limited
pins: CLK (in), CSN (in), MODE (in), P0 (in), P1 (in), P2 (in), P3 (in), P4 (in), P5 (in), P6 (in), P7 (in), P8 (in), P9 (in), P10 (in), P11 (in), P12 (in), P13 (in), P14 (in), P15 (in), Q15 (out), RWN (in), SER (in)

## A_74684
designator U?
8-Bit Magnitude/Identity Comparator; FPGAVendor: Altera; Published: 17-Apr-2002; Publisher: Altium Limited
pins: EQUALN (out), P0 (in), P1 (in), P2 (in), P3 (in), P4 (in), P5 (in), P6 (in), P7 (in), P_GR_QN (out), Q0 (in), Q1 (in), Q2 (in), Q3 (in), Q4 (in), Q5 (in), Q6 (in), Q7 (in)

## A_74686
designator U?
8-Bit Magnitude/Identity Comparator; FPGAVendor: Altera; Published: 17-Apr-2002; Publisher: Altium Limited
pins: EQUALN (out), G1N (in), G2N (in), P0 (in), P1 (in), P2 (in), P3 (in), P4 (in), P5 (in), P6 (in), P7 (in), P_GR_QN (out), Q0 (in), Q1 (in), Q2 (in), Q3 (in), Q4 (in), Q5 (in), Q6 (in), Q7 (in)

## A_74688
designator U?
8-Bit Identity Comparator; FPGAVendor: Altera; Published: 17-Apr-2002; Publisher: Altium Limited
pins: EQUALN (out), GN (in), P0 (in), P1 (in), P2 (in), P3 (in), P4 (in), P5 (in), P6 (in), P7 (in), Q0 (in), Q1 (in), Q2 (in), Q3 (in), Q4 (in), Q5 (in), Q6 (in), Q7 (in)

## A_74690
designator U?
Synchronous Decade Counter with Output Registers, Multiplexed Tri-State Outputs, and Asynchronous Clear; FPGAVendor: Altera; Note: Removed not gate from line GN; Published: 17-Apr-2002; Publisher: Altium Limited
pins: CCLK (in), CCLRN (in), D0 (in), D1 (in), D2 (in), D3 (in), ENP (in), ENT (in), GN (in), LDN (in), Q0 (out), Q1 (out), Q2 (out), Q3 (out), R_CN (in), RCLK (in), RCLRN (in), RCO (out)

## A_74691
designator U?
Synchronous Binary Counter with Output Registers, Multiplexed Tri-State Outputs, and Asynchronous Clear; FPGAVendor: Altera; Published: 17-Apr-2002; Publisher: Altium Limited
pins: CCLK (in), CCLRN (in), D0 (in), D1 (in), D2 (in), D3 (in), ENP (in), ENT (in), GN (in), LDN (in), Q0 (out), Q1 (out), Q2 (out), Q3 (out), R_CN (in), RCLK (in), RCLRN (in), RCO (out)

## A_74693
designator U?
Synchronous Binary Counter with Output Registers, Multiplexed Tri-State Outputs, and Synchronous Clear; FPGAVendor: Altera; Published: 17-Apr-2002; Publisher: Altium Limited
pins: CCLK (in), CCLRN (in), D0 (in), D1 (in), D2 (in), D3 (in), ENP (in), ENT (in), GN (in), LDN (in), Q0 (out), Q1 (out), Q2 (out), Q3 (out), R_CN (in), RCLK (in), RCLRN (in), RCO (out)

## A_74696
designator U?
Synchronous Decade Up/Down Counter with Output Registers, Multiplexed Tri-State Outputs, and Asynchronous Clear; FPGAVendor: Altera; Published: 17-Apr-2002; Publisher: Altium Limited
pins: CCLK (in), CCLRN (in), D0 (in), D1 (in), D2 (in), D3 (in), ENPN (in), ENTN (in), GN (in), LDN (in), Q0 (out), Q1 (out), Q2 (out), Q3 (out), R_CN (in), RCLK (in), TCN (out), U_DN (in)

## A_74697
designator U?
Synchronous Binary Up/Down Counter with Output Registers, Multiplexed Tri-State Outputs, and Asynchronous Clear; FPGAVendor: Altera; Published: 17-Apr-2002; Publisher: Altium Limited
pins: CCLK (in), CCLRN (in), D0 (in), D1 (in), D2 (in), D3 (in), ENPN (in), ENTN (in), GN (in), LDN (in), Q0 (out), Q1 (out), Q2 (out), Q3 (out), R_CN (in), RCLK (in), TCN (out), U_DN (in)

## A_74698
designator U?
Synchronous Decade Up/Down Counter with Output Registers, Multiplexed Tri-State Outputs, and Synchronous Clear; FPGAVendor: Altera; Published: 17-Apr-2002; Publisher: Altium Limited
pins: CCLK (in), CCLRN (in), D0 (in), D1 (in), D2 (in), D3 (in), ENPN (in), ENTN (in), GN (in), LDN (in), Q0 (out), Q1 (out), Q2 (out), Q3 (out), R_CN (in), RCLK (in), TCN (out), U_DN (in)

## A_74699
designator U?
Synchronous Binary Up/Down Counter with Output Registers, Multiplexed Tri-State Outputs, and Synchronous Clear; FPGAVendor: Altera; Published: 17-Apr-2002; Publisher: Altium Limited
pins: CCLK (in), CCLRN (in), D0 (in), D1 (in), D2 (in), D3 (in), ENPN (in), ENTN (in), GN (in), LDN (in), Q0 (out), Q1 (out), Q2 (out), Q3 (out), R_CN (in), RCLK (in), TCN (out), U_DN (in)

## A_74821
designator U?
10-Bit Bus Interface Flip-Flop with Tri-State Outputs; FPGAVendor: Altera; Published: 17-Apr-2002; Publisher: Altium Limited
pins: CLK (in), D1 (in), D2 (in), D3 (in), D4 (in), D5 (in), D6 (in), D7 (in), D8 (in), D9 (in), D10 (in), OEN (in), Q1 (out), Q2 (out), Q3 (out), Q4 (out), Q5 (out), Q6 (out), Q7 (out), Q8 (out), Q9 (out), Q10 (out)

## A_74821B
designator U?
10-Bit D-Type Flipflop with Tri-State Outputs; FPGAVendor: Altera; Published: 17-Apr-2002; Publisher: Altium Limited
pins: CLK (in), D1 (in), D2 (in), D3 (in), D4 (in), D5 (in), D6 (in), D7 (in), D8 (in), D9 (in), D10 (in), OEN (in), Q1 (out), Q2 (out), Q3 (out), Q4 (out), Q5 (out), Q6 (out), Q7 (out), Q8 (out), Q9 (out), Q10 (out)

## A_74822
designator U?
10-Bit Bus Interface Flip-Flop with Tri-State Inverting Outputs; FPGAVendor: Altera; Published: 17-Apr-2002; Publisher: Altium Limited
pins: CLK (in), DN1 (in), DN2 (in), DN3 (in), DN4 (in), DN5 (in), DN6 (in), DN7 (in), DN8 (in), DN9 (in), DN10 (in), OEN (in), Q1 (out), Q2 (out), Q3 (out), Q4 (out), Q5 (out), Q6 (out), Q7 (out), Q8 (out), Q9 (out), Q10 (out)

## A_74822B
designator U?
10-Bit D-Type Inverting Flipflop with Tri-State Inverting Outputs; FPGAVendor: Altera; Published: 17-Apr-2002; Publisher: Altium Limited
pins: CLK (in), DN1 (in), DN2 (in), DN3 (in), DN4 (in), DN5 (in), DN6 (in), DN7 (in), DN8 (in), DN9 (in), DN10 (in), OEN (in), Q1 (out), Q2 (out), Q3 (out), Q4 (out), Q5 (out), Q6 (out), Q7 (out), Q8 (out), Q9 (out), Q10 (out)

## A_74823
designator U?
9-Bit Bus Interface Flip-Flop with Tri-State Outputs; FPGAVendor: Altera; Published: 17-Apr-2002; Publisher: Altium Limited
pins: CLK (in), CLKENN (in), CLRN (in), D1 (in), D2 (in), D3 (in), D4 (in), D5 (in), D6 (in), D7 (in), D8 (in), D9 (in), OEN (in), Q1 (out), Q2 (out), Q3 (out), Q4 (out), Q5 (out), Q6 (out), Q7 (out), Q8 (out), Q9 (out)

## A_74823B
designator U?
9-Bit D-Type Flipflop with Tri-State Outputs; FPGAVendor: Altera; Published: 17-Apr-2002; Publisher: Altium Limited
pins: CLK (in), CLKENN (in), CLRN (in), D1 (in), D2 (in), D3 (in), D4 (in), D5 (in), D6 (in), D7 (in), D8 (in), D9 (in), OEN (in), Q1 (out), Q2 (out), Q3 (out), Q4 (out), Q5 (out), Q6 (out), Q7 (out), Q8 (out), Q9 (out)

## A_74824
designator U?
9-Bit Bus Interface Flip-Flop with Tri-State Inverting Outputs; FPGAVendor: Altera; Published: 17-Apr-2002; Publisher: Altium Limited
pins: CLK (in), CLKENN (in), CLRN (in), DN1 (in), DN2 (in), DN3 (in), DN4 (in), DN5 (in), DN6 (in), DN7 (in), DN8 (in), DN9 (in), OEN (in), Q1 (out), Q2 (out), Q3 (out), Q4 (out), Q5 (out), Q6 (out), Q7 (out), Q8 (out), Q9 (out)

## A_74824B
designator U?
9-Bit D-Type Inverting Flipflop with Tri-State Inverting Outputs; FPGAVendor: Altera; Published: 17-Apr-2002; Publisher: Altium Limited
pins: CLK (in), CLKENN (in), CLRN (in), DN1 (in), DN2 (in), DN3 (in), DN4 (in), DN5 (in), DN6 (in), DN7 (in), DN8 (in), DN9 (in), OEN (in), Q1 (out), Q2 (out), Q3 (out), Q4 (out), Q5 (out), Q6 (out), Q7 (out), Q8 (out), Q9 (out)

## A_74825
designator U?
8-Bit Bus Interface Flip-Flop with Tri-State Outputs; FPGAVendor: Altera; Published: 17-Apr-2002; Publisher: Altium Limited
pins: CLK (in), CLKENN (in), CLRN (in), D1 (in), D2 (in), D3 (in), D4 (in), D5 (in), D6 (in), D7 (in), D8 (in), OE1N (in), OE2N (in), OE3N (in), Q1 (out), Q2 (out), Q3 (out), Q4 (out), Q5 (out), Q6 (out), Q7 (out), Q8 (out)

## A_74825B
designator U?
Octal D-Type Flipflop with Tri-State Outputs; FPGAVendor: Altera; Published: 17-Apr-2002; Publisher: Altium Limited
pins: CLK (in), CLKENN (in), CLRN (in), D1 (in), D2 (in), D3 (in), D4 (in), D5 (in), D6 (in), D7 (in), D8 (in), OE1N (in), OE2N (in), OE3N (in), Q1 (out), Q2 (out), Q3 (out), Q4 (out), Q5 (out), Q6 (out), Q7 (out), Q8 (out)

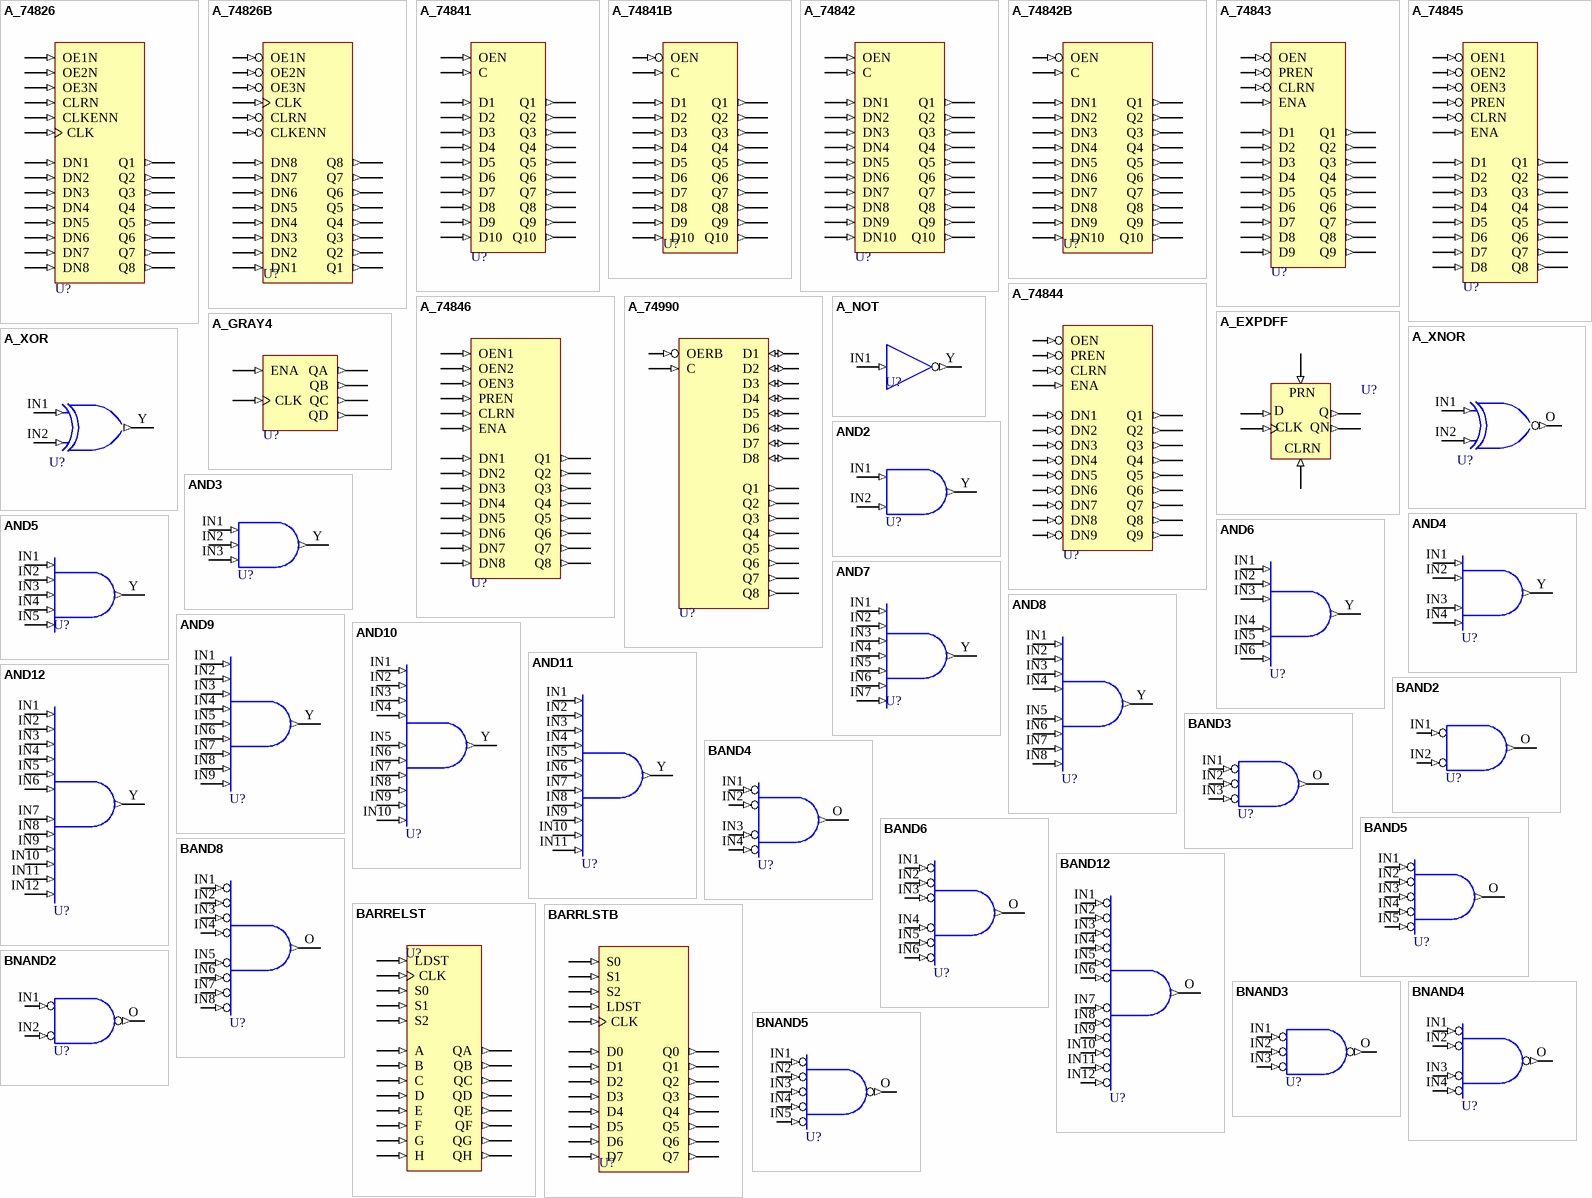
[diagram p8: symbols A_74826 to BNAND5]

## A_74826
designator U?
8-Bit Bus Interface Flip-Flop with Tri-State Inverting Outputs; FPGAVendor: Altera; Published: 17-Apr-2002; Publisher: Altium Limited
pins: CLK (in), CLKENN (in), CLRN (in), DN1 (in), DN2 (in), DN3 (in), DN4 (in), DN5 (in), DN6 (in), DN7 (in), DN8 (in), OE1N (in), OE2N (in), OE3N (in), Q1 (out), Q2 (out), Q3 (out), Q4 (out), Q5 (out), Q6 (out), Q7 (out), Q8 (out)

## A_74826B
designator U?
Octal D-Type Inverting Flipflop with Tri-State Inverting Outputs; FPGAVendor: Altera; Published: 17-Apr-2002; Publisher: Altium Limited
pins: CLK (in), CLKENN (in), CLRN (in), DN1 (in), DN2 (in), DN3 (in), DN4 (in), DN5 (in), DN6 (in), DN7 (in), DN8 (in), OE1N (in), OE2N (in), OE3N (in), Q1 (out), Q2 (out), Q3 (out), Q4 (out), Q5 (out), Q6 (out), Q7 (out), Q8 (out)

## A_74841
designator U?
10-Bit D-Type Latch with Tri-State Outputs; FPGAVendor: Altera; Published: 17-Apr-2002; Publisher: Altium Limited
pins: C (in), D1 (in), D2 (in), D3 (in), D4 (in), D5 (in), D6 (in), D7 (in), D8 (in), D9 (in), D10 (in), OEN (in), Q1 (out), Q2 (out), Q3 (out), Q4 (out), Q5 (out), Q6 (out), Q7 (out), Q8 (out), Q9 (out), Q10 (out)

## A_74841B
designator U?
10-Bit D-Type Latch with Tri-State Outputs; FPGAVendor: Altera; Published: 17-Apr-2002; Publisher: Altium Limited
pins: C (in), D1 (in), D2 (in), D3 (in), D4 (in), D5 (in), D6 (in), D7 (in), D8 (in), D9 (in), D10 (in), OEN (in), Q1 (out), Q2 (out), Q3 (out), Q4 (out), Q5 (out), Q6 (out), Q7 (out), Q8 (out), Q9 (out), Q10 (out)

## A_74842
designator U?
10-Bit D-Type Latch with Tri-State Outputs; FPGAVendor: Altera; Published: 17-Apr-2002; Publisher: Altium Limited
pins: C (in), DN1 (in), DN2 (in), DN3 (in), DN4 (in), DN5 (in), DN6 (in), DN7 (in), DN8 (in), DN9 (in), DN10 (in), OEN (in), Q1 (out), Q2 (out), Q3 (out), Q4 (out), Q5 (out), Q6 (out), Q7 (out), Q8 (out), Q9 (out), Q10 (out)

## A_74842B
designator U?
10-Bit D-Type Inverting Latch with Tri-State Outputs; FPGAVendor: Altera; Published: 17-Apr-2002; Publisher: Altium Limited
pins: C (in), DN1 (in), DN2 (in), DN3 (in), DN4 (in), DN5 (in), DN6 (in), DN7 (in), DN8 (in), DN9 (in), DN10 (in), OEN (in), Q1 (out), Q2 (out), Q3 (out), Q4 (out), Q5 (out), Q6 (out), Q7 (out), Q8 (out), Q9 (out), Q10 (out)

## A_74843
designator U?
9-Bit Bus Interface D-Type Latch with Tri-State Outputs; FPGAVendor: Altera; Published: 17-Apr-2002; Publisher: Altium Limited
pins: CLRN (in), D1 (in), D2 (in), D3 (in), D4 (in), D5 (in), D6 (in), D7 (in), D8 (in), D9 (in), ENA (in), OEN (in), PREN (in), Q1 (out), Q2 (out), Q3 (out), Q4 (out), Q5 (out), Q6 (out), Q7 (out), Q8 (out), Q9 (out)

## A_74844
designator U?
9-Bit Bus Interface D-Type Inverting Latch with Tri-State Outputs; FPGAVendor: Altera; Published: 17-Apr-2002; Publisher: Altium Limited
pins: CLRN (in), DN1 (in), DN2 (in), DN3 (in), DN4 (in), DN5 (in), DN6 (in), DN7 (in), DN8 (in), DN9 (in), ENA (in), OEN (in), PREN (in), Q1 (out), Q2 (out), Q3 (out), Q4 (out), Q5 (out), Q6 (out), Q7 (out), Q8 (out), Q9 (out)

## A_74845
designator U?
8-Bit Bus Interface D-Type Latch with Tri-State Outputs; FPGAVendor: Altera; Published: 17-Apr-2002; Publisher: Altium Limited
pins: CLRN (in), D1 (in), D2 (in), D3 (in), D4 (in), D5 (in), D6 (in), D7 (in), D8 (in), ENA (in), OEN1 (in), OEN2 (in), OEN3 (in), PREN (in), Q1 (out), Q2 (out), Q3 (out), Q4 (out), Q5 (out), Q6 (out), Q7 (out), Q8 (out)

## A_74846
designator U?
8-Bit Bus Interface D-Type Inverting Latch with Tri-State Outputs; FPGAVendor: Altera; Published: 17-Apr-2002; Publisher: Altium Limited
pins: CLRN (in), DN1 (in), DN2 (in), DN3 (in), DN4 (in), DN5 (in), DN6 (in), DN7 (in), DN8 (in), ENA (in), OEN1 (in), OEN2 (in), OEN3 (in), PREN (in), Q1 (out), Q2 (out), Q3 (out), Q4 (out), Q5 (out), Q6 (out), Q7 (out), Q8 (out)

## A_74990
designator U?
8-Bit D-Type Transparent Read-Back Latch; FPGAVendor: Altera; Published: 17-Apr-2002; Publisher: Altium Limited
pins: C (in), D1 (io), D2 (io), D3 (io), D4 (io), D5 (io), D6 (io), D7 (io), D8 (io), OERB (in), Q1 (out), Q2 (out), Q3 (out), Q4 (out), Q5 (out), Q6 (out), Q7 (out), Q8 (out)

## A_EXPDFF
designator U?
D-Type Flip-Flop Implemented with Expanders; FPGAVendor: Altera; Published: 17-Apr-2002; Publisher: Altium Limited
pins: CLK (in), CLRN (in), D (in), PRN (in), Q (out), QN (out)

## A_GRAY4
designator U?
Gray-Code Counter; FPGAVendor: Altera; Published: 17-Apr-2002; Publisher: Altium Limited
pins: CLK (in), ENA (in), QA (out), QB (out), QC (out), QD (out)

## A_NOT
designator U?
Inverter; FPGAVendor: Altera; Published: 17-Apr-2002; Publisher: Altium Limited
pins: IN1 (in), Y (out)

## A_XNOR
designator U?
2-Input XNOR Gate; FPGAVendor: Altera; Published: 17-Apr-2002; Publisher: Altium Limited
pins: IN1 (in), IN2 (in), O (out)

## A_XOR
designator U?
2-Input XOR Gate; FPGAVendor: Altera; Published: 17-Apr-2002; Publisher: Altium Limited
pins: IN1 (in), IN2 (in), Y (out)

## AND2
designator U?
2-Input AND Gate; FPGAVendor: Altera; Published: 17-Apr-2002; Publisher: Altium Limited
pins: IN1 (in), IN2 (in), Y (out)

## AND3
designator U?
3-Input AND Gate; FPGAVendor: Altera; Published: 17-Apr-2002; Publisher: Altium Limited
pins: IN1 (in), IN2 (in), IN3 (in), Y (out)

## AND4
designator U?
4-Input AND Gate; FPGAVendor: Altera; Published: 17-Apr-2002; Publisher: Altium Limited
pins: IN1 (in), IN2 (in), IN3 (in), IN4 (in), Y (out)

## AND5
designator U?
5-Input AND Gate; FPGAVendor: Altera; Published: 17-Apr-2002; Publisher: Altium Limited
pins: IN1 (in), IN2 (in), IN3 (in), IN4 (in), IN5 (in), Y (out)

## AND6
designator U?
6-Input AND Gate; FPGAVendor: Altera; Published: 17-Apr-2002; Publisher: Altium Limited
pins: IN1 (in), IN2 (in), IN3 (in), IN4 (in), IN5 (in), IN6 (in), Y (out)

## AND7
designator U?
7-Input AND Gate; FPGAVendor: Altera; Published: 17-Apr-2002; Publisher: Altium Limited
pins: IN1 (in), IN2 (in), IN3 (in), IN4 (in), IN5 (in), IN6 (in), IN7 (in), Y (out)

## AND8
designator U?
8-Input AND Gate; FPGAVendor: Altera; Published: 17-Apr-2002; Publisher: Altium Limited
pins: IN1 (in), IN2 (in), IN3 (in), IN4 (in), IN5 (in), IN6 (in), IN7 (in), IN8 (in), Y (out)

## AND9
designator U?
9-Input AND Gate; FPGAVendor: Altera; Published: 17-Apr-2002; Publisher: Altium Limited
pins: IN1 (in), IN2 (in), IN3 (in), IN4 (in), IN5 (in), IN6 (in), IN7 (in), IN8 (in), IN9 (in), Y (out)

## AND10
designator U?
10-Input AND Gate; FPGAVendor: Altera; Published: 17-Apr-2002; Publisher: Altium Limited
pins: IN1 (in), IN2 (in), IN3 (in), IN4 (in), IN5 (in), IN6 (in), IN7 (in), IN8 (in), IN9 (in), IN10 (in), Y (out)

## AND11
designator U?
11-Input AND Gate; FPGAVendor: Altera; Published: 17-Apr-2002; Publisher: Altium Limited
pins: IN1 (in), IN2 (in), IN3 (in), IN4 (in), IN5 (in), IN6 (in), IN7 (in), IN8 (in), IN9 (in), IN10 (in), IN11 (in), Y (out)

## AND12
designator U?
12-Input AND Gate; FPGAVendor: Altera; Published: 17-Apr-2002; Publisher: Altium Limited
pins: IN1 (in), IN2 (in), IN3 (in), IN4 (in), IN5 (in), IN6 (in), IN7 (in), IN8 (in), IN9 (in), IN10 (in), IN11 (in), IN12 (in), Y (out)

## BAND2
designator U?
2-Input Negative-AND Gate; FPGAVendor: Altera; Published: 17-Apr-2002; Publisher: Altium Limited
pins: IN1 (in), IN2 (in), O (out)

## BAND3
designator U?
3-Input Negative AND Gate; FPGAVendor: Altera; Published: 17-Apr-2002; Publisher: Altium Limited
pins: IN1 (in), IN2 (in), IN3 (in), O (out)

## BAND4
designator U?
4-Input Negative-AND Gate; FPGAVendor: Altera; Published: 17-Apr-2002; Publisher: Altium Limited
pins: IN1 (in), IN2 (in), IN3 (in), IN4 (in), O (out)

## BAND5
designator U?
5-Input Negative-AND Gate; FPGAVendor: Altera; Published: 17-Apr-2002; Publisher: Altium Limited
pins: IN1 (in), IN2 (in), IN3 (in), IN4 (in), IN5 (in), O (out)

## BAND6
designator U?
6-Input Negative-AND Gate; FPGAVendor: Altera; Published: 17-Apr-2002; Publisher: Altium Limited
pins: IN1 (in), IN2 (in), IN3 (in), IN4 (in), IN5 (in), IN6 (in), O (out)

## BAND8
designator U?
8-Input Negative-AND Gate; FPGAVendor: Altera; Published: 17-Apr-2002; Publisher: Altium Limited
pins: IN1 (in), IN2 (in), IN3 (in), IN4 (in), IN5 (in), IN6 (in), IN7 (in), IN8 (in), O (out)

## BAND12
designator U?
12-Input Negative-AND Gate; FPGAVendor: Altera; Published: 17-Apr-2002; Publisher: Altium Limited
pins: IN1 (in), IN2 (in), IN3 (in), IN4 (in), IN5 (in), IN6 (in), IN7 (in), IN8 (in), IN9 (in), IN10 (in), IN11 (in), IN12 (in), O (out)

## BARRELST
designator U?
8-Bit Barrel Shifter; FPGAVendor: Altera; Published: 17-Apr-2002; Publisher: Altium Limited
pins: A (in), B (in), C (in), CLK (in), D (in), E (in), F (in), G (in), H (in), LDST (in), QA (out), QB (out), QC (out), QD (out), QE (out), QF (out), QG (out), QH (out), S0 (in), S1 (in), S2 (in)

## BARRLSTB
designator U?
8-Bit Barrel Shifter; FPGAVendor: Altera; Published: 17-Apr-2002; Publisher: Altium Limited
pins: CLK (in), D0 (in), D1 (in), D2 (in), D3 (in), D4 (in), D5 (in), D6 (in), D7 (in), LDST (in), Q0 (out), Q1 (out), Q2 (out), Q3 (out), Q4 (out), Q5 (out), Q6 (out), Q7 (out), S0 (in), S1 (in), S2 (in)

## BNAND2
designator U?
2-Input Negative-NAND Gate; FPGAVendor: Altera; Published: 17-Apr-2002; Publisher: Altium Limited
pins: IN1 (in), IN2 (in), O (out)

## BNAND3
designator U?
3-Input Negative-NAND Gate; FPGAVendor: Altera; Published: 17-Apr-2002; Publisher: Altium Limited
pins: IN1 (in), IN2 (in), IN3 (in), O (out)

## BNAND4
designator U?
4-Input Negative-NAND Gate; FPGAVendor: Altera; Published: 17-Apr-2002; Publisher: Altium Limited
pins: IN1 (in), IN2 (in), IN3 (in), IN4 (in), O (out)

## BNAND5
designator U?
5-Input Negative-NAND Gate; FPGAVendor: Altera; Published: 17-Apr-2002; Publisher: Altium Limited
pins: IN1 (in), IN2 (in), IN3 (in), IN4 (in), IN5 (in), O (out)

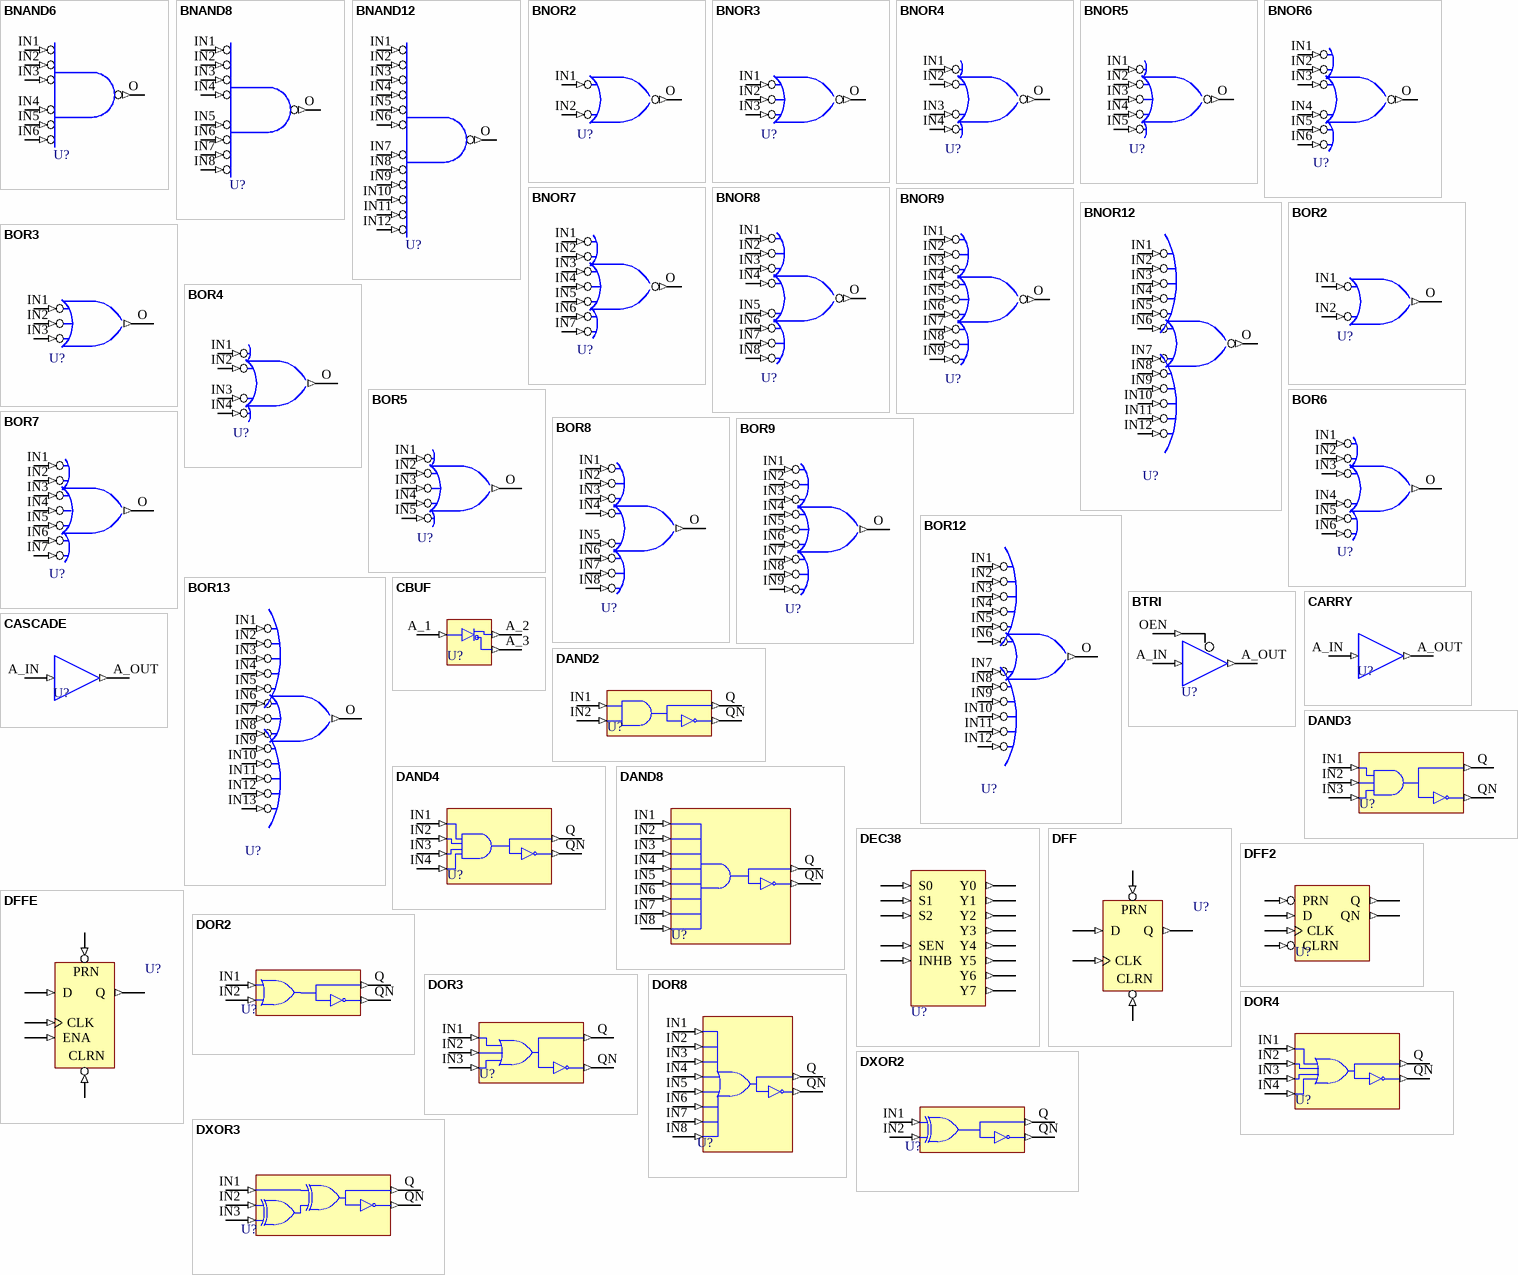
[diagram p9: symbols BNAND6 to DXOR3]

## BNAND6
designator U?
6-Input Negative-NAND Gate; FPGAVendor: Altera; Published: 17-Apr-2002; Publisher: Altium Limited
pins: IN1 (in), IN2 (in), IN3 (in), IN4 (in), IN5 (in), IN6 (in), O (out)

## BNAND8
designator U?
8-Input Negative-NAND Gate; FPGAVendor: Altera; Published: 17-Apr-2002; Publisher: Altium Limited
pins: IN1 (in), IN2 (in), IN3 (in), IN4 (in), IN5 (in), IN6 (in), IN7 (in), IN8 (in), O (out)

## BNAND12
designator U?
12-Input Negative-NAND Gate; FPGAVendor: Altera; Published: 17-Apr-2002; Publisher: Altium Limited
pins: IN1 (in), IN2 (in), IN3 (in), IN4 (in), IN5 (in), IN6 (in), IN7 (in), IN8 (in), IN9 (in), IN10 (in), IN11 (in), IN12 (in), O (out)

## BNOR2
designator U?
2-Input Negative-NOR Gate; FPGAVendor: Altera; Published: 17-Apr-2002; Publisher: Altium Limited
pins: IN1 (in), IN2 (in), O (out)

## BNOR3
designator U?
3-Input Negative-NOR Gate; FPGAVendor: Altera; Published: 17-Apr-2002; Publisher: Altium Limited
pins: IN1 (in), IN2 (in), IN3 (in), O (out)

## BNOR4
designator U?
4-Input Negative-NOR Gate; FPGAVendor: Altera; Published: 17-Apr-2002; Publisher: Altium Limited
pins: IN1 (in), IN2 (in), IN3 (in), IN4 (in), O (out)

## BNOR5
designator U?
5-Input Negative-NOR Gate; FPGAVendor: Altera; Published: 17-Apr-2002; Publisher: Altium Limited
pins: IN1 (in), IN2 (in), IN3 (in), IN4 (in), IN5 (in), O (out)

## BNOR6
designator U?
6-Input Negative-NOR Gate; FPGAVendor: Altera; Published: 17-Apr-2002; Publisher: Altium Limited
pins: IN1 (in), IN2 (in), IN3 (in), IN4 (in), IN5 (in), IN6 (in), O (out)

## BNOR7
designator U?
7-Input Negative-NOR Gate; FPGAVendor: Altera; Published: 17-Apr-2002; Publisher: Altium Limited
pins: IN1 (in), IN2 (in), IN3 (in), IN4 (in), IN5 (in), IN6 (in), IN7 (in), O (out)

## BNOR8
designator U?
8-Input Negative-NOR Gate; FPGAVendor: Altera; Published: 17-Apr-2002; Publisher: Altium Limited
pins: IN1 (in), IN2 (in), IN3 (in), IN4 (in), IN5 (in), IN6 (in), IN7 (in), IN8 (in), O (out)

## BNOR9
designator U?
9-Input Negative-NOR Gate; FPGAVendor: Altera; Published: 17-Apr-2002; Publisher: Altium Limited
pins: IN1 (in), IN2 (in), IN3 (in), IN4 (in), IN5 (in), IN6 (in), IN7 (in), IN8 (in), IN9 (in), O (out)

## BNOR12
designator U?
12-Input Negative-NOR Gate; FPGAVendor: Altera; Published: 17-Apr-2002; Publisher: Altium Limited
pins: IN1 (in), IN2 (in), IN3 (in), IN4 (in), IN5 (in), IN6 (in), IN7 (in), IN8 (in), IN9 (in), IN10 (in), IN11 (in), IN12 (in), O (out)

## BOR2
designator U?
2-Input Negative-OR Gate; FPGAVendor: Altera; Published: 17-Apr-2002; Publisher: Altium Limited
pins: IN1 (in), IN2 (in), O (out)

## BOR3
designator U?
3-Input Negative-OR Gate; FPGAVendor: Altera; Published: 17-Apr-2002; Publisher: Altium Limited
pins: IN1 (in), IN2 (in), IN3 (in), O (out)

## BOR4
designator U?
4-Input Negative-OR Gate; FPGAVendor: Altera; Published: 17-Apr-2002; Publisher: Altium Limited
pins: IN1 (in), IN2 (in), IN3 (in), IN4 (in), O (out)

## BOR5
designator U?
5-Input Negative-OR Gate; FPGAVendor: Altera; Published: 17-Apr-2002; Publisher: Altium Limited
pins: IN1 (in), IN2 (in), IN3 (in), IN4 (in), IN5 (in), O (out)

## BOR6
designator U?
6-Input Negative-OR Gate; FPGAVendor: Altera; Published: 17-Apr-2002; Publisher: Altium Limited
pins: IN1 (in), IN2 (in), IN3 (in), IN4 (in), IN5 (in), IN6 (in), O (out)

## BOR7
designator U?
7-Input Negative-OR Gate; FPGAVendor: Altera; Published: 17-Apr-2002; Publisher: Altium Limited
pins: IN1 (in), IN2 (in), IN3 (in), IN4 (in), IN5 (in), IN6 (in), IN7 (in), O (out)

## BOR8
designator U?
8-Input Negative-OR Gate; FPGAVendor: Altera; Published: 17-Apr-2002; Publisher: Altium Limited
pins: IN1 (in), IN2 (in), IN3 (in), IN4 (in), IN5 (in), IN6 (in), IN7 (in), IN8 (in), O (out)

## BOR9
designator U?
9-Input Negative-OR Gate; FPGAVendor: Altera; Published: 17-Apr-2002; Publisher: Altium Limited
pins: IN1 (in), IN2 (in), IN3 (in), IN4 (in), IN5 (in), IN6 (in), IN7 (in), IN8 (in), IN9 (in), O (out)

## BOR12
designator U?
12-Input Negative-OR Gate; FPGAVendor: Altera; Published: 17-Apr-2002; Publisher: Altium Limited
pins: IN1 (in), IN2 (in), IN3 (in), IN4 (in), IN5 (in), IN6 (in), IN7 (in), IN8 (in), IN9 (in), IN10 (in), IN11 (in), IN12 (in), O (out)

## BOR13
designator U?
13-Input Negative-OR Gate; FPGAVendor: Altera; Published: 17-Apr-2002; Publisher: Altium Limited
pins: IN1 (in), IN2 (in), IN3 (in), IN4 (in), IN5 (in), IN6 (in), IN7 (in), IN8 (in), IN9 (in), IN10 (in), IN11 (in), IN12 (in), IN13 (in), O (out)

## BTRI
designator U?
Active-Low Tri-State Buffer; FPGAVendor: Altera; Published: 17-Apr-2002; Publisher: Altium Limited
pins: A_IN (in), A_OUT (out), OEN (in)

## CARRY
designator U?
Buffer; FPGAVendor: Altera; Published: 17-Apr-2002; Publisher: Altium Limited
pins: A_IN (in), A_OUT (out)

## CASCADE
designator U?
Buffer; FPGAVendor: Altera; Published: 17-Apr-2002; Publisher: Altium Limited
pins: A_IN (in), A_OUT (out)

## CBUF
designator U?
Complementary Buffer; FPGAVendor: Altera; Published: 17-Apr-2002; Publisher: Altium Limited
pins: A_1 (in), A_2 (out), A_3 (out)

## DAND2
designator U?
2-Input AND Gate with additional inverted output.; FPGAVendor: Altera; Published: 17-Apr-2002; Publisher: Altium Limited
pins: IN1 (in), IN2 (in), Q (out), QN (out)

## DAND3
designator U?
3-Input AND Gate with additional inverted output.; FPGAVendor: Altera; Published: 17-Apr-2002; Publisher: Altium Limited
pins: IN1 (in), IN2 (in), IN3 (in), Q (out), QN (out)